# Altium integrated library Xilinx PLD XC9500XL.IntLib: 169 symbols (part 8 of 11)
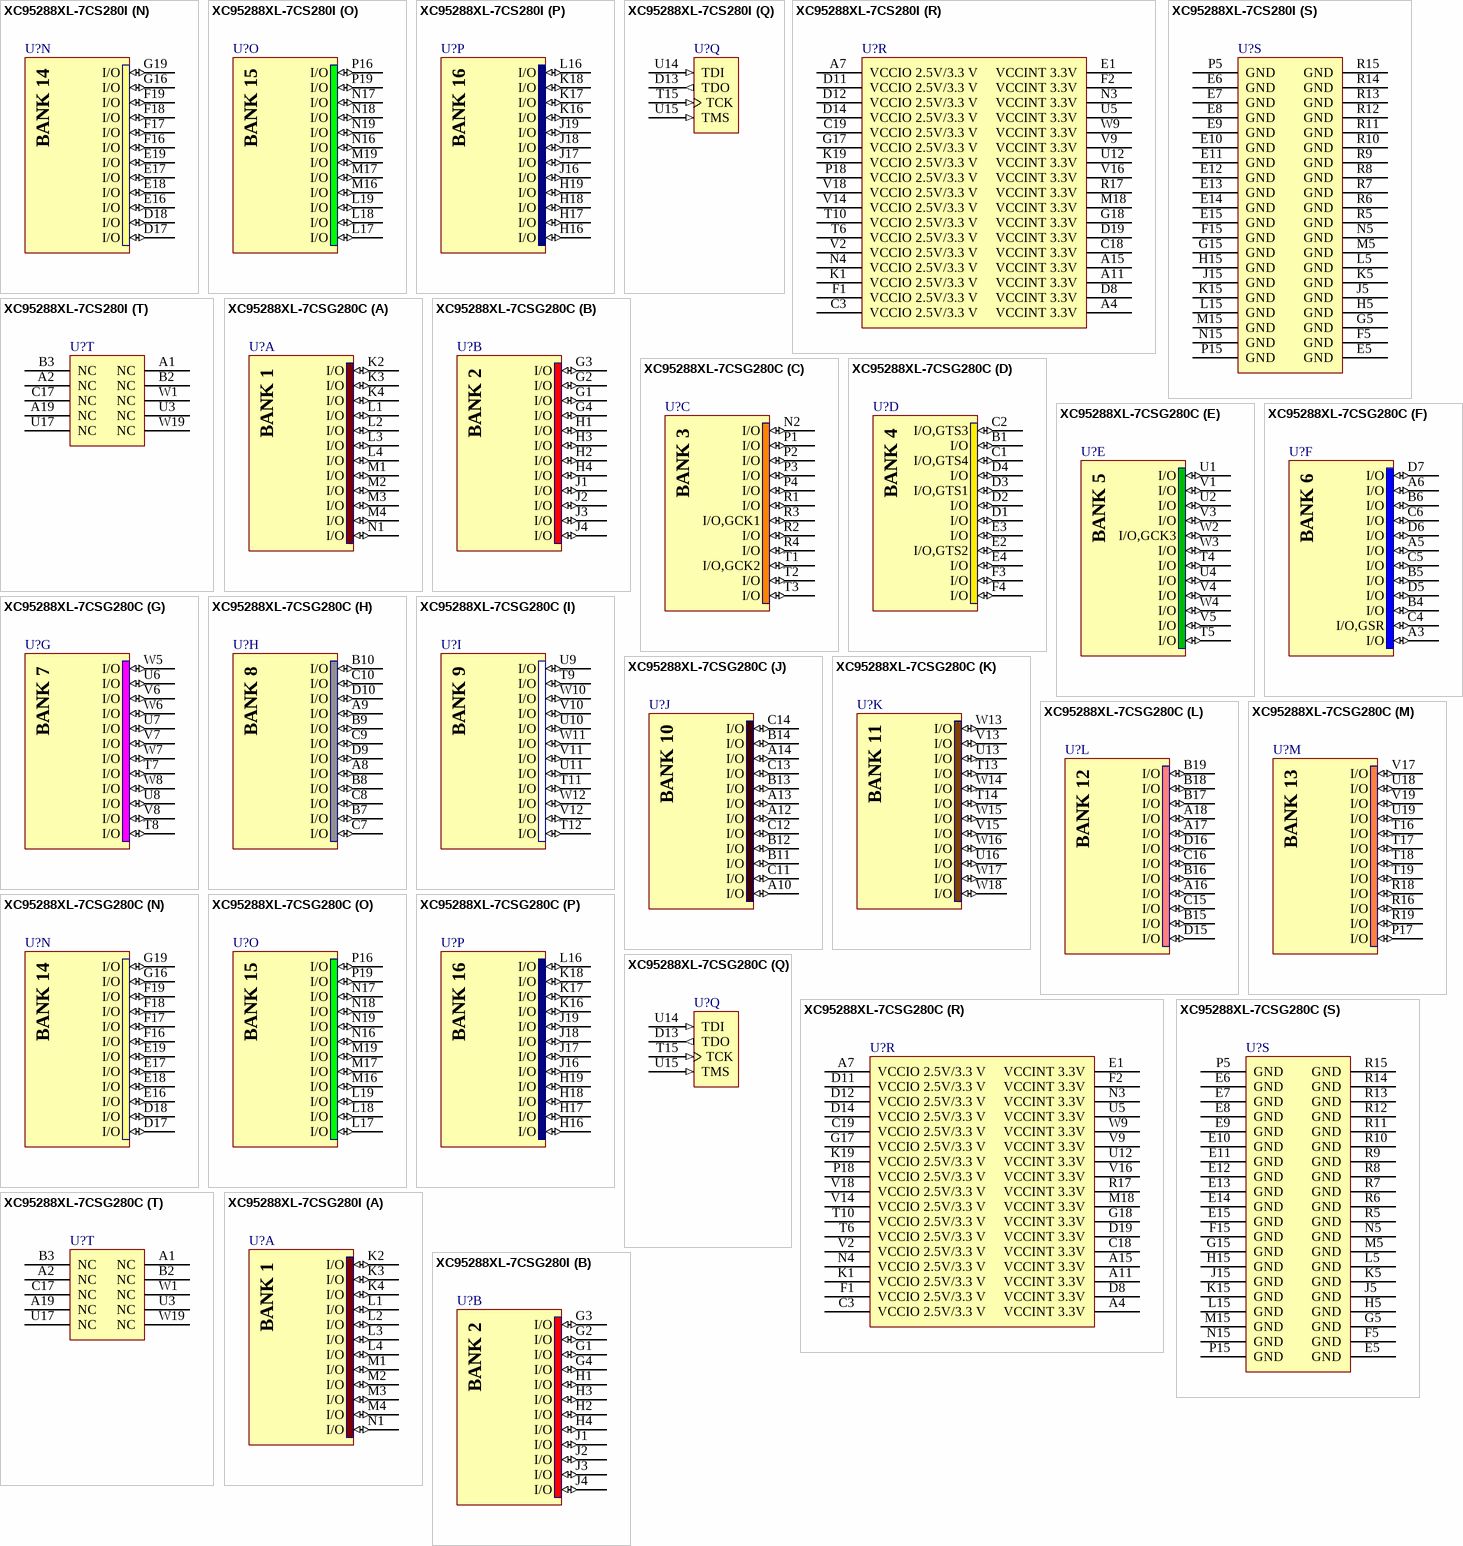
[diagram p65: symbols XC95288XL-7CS280I to XC95288XL-7CSG280I]

## XC95288XL-7CS280I
designator U?
FastFLASH XC900XL, 3.3V High-Performance 288 Macrocell CPLD, 192 User I/Os, 280-Ball CSBGA, Speed Grade 7, Industrial Grade; DatasheetVersion: ver2.1, Apr-2007; PackageVersion: ver1.0, Dec-2005; PackageReference: CS280LAM; PackageDescription: 280-Ball Laminate Chip Scale Ball Grid Array (CS280LAM); Code_JEDEC: MO-216-BAL-1 (Depopulated); ComponentLink1Description: Manufacturer URL; ComponentLink1URL: http://www.xilinx.com/; ComponentLink2Description: XC95288XL Datasheet; ComponentLink2URL: http://www.xilinx.com/support/documentation/data_sheets/ds055.pdf; ComponentLink3Description: CS280LAM Package Drawing; ComponentLink3URL: http://www.xilinx.com/support/documentation/package_specs/cs280_lam.pdf; ComponentLink4Description: XC9500XL Documents; ComponentLink4URL: http://www.xilinx.com/support/documentation/xc9500xl.htm
footprint CS280LAM (BGA, 280-Leads, Body 16x16mm, Pitch 0.8mm)
part A pins: K2 I/O (io), K3 I/O (io), K4 I/O (io), L1 I/O (io), L2 I/O (io), L3 I/O (io), L4 I/O (io), M1 I/O (io), M2 I/O (io), M3 I/O (io), M4 I/O (io), N1 I/O (io)
part B pins: G1 I/O (io), G2 I/O (io), G3 I/O (io), G4 I/O (io), H1 I/O (io), H2 I/O (io), H3 I/O (io), H4 I/O (io), J1 I/O (io), J2 I/O (io), J3 I/O (io), J4 I/O (io)
part C pins: N2 I/O (io), P1 I/O (io), P2 I/O (io), P3 I/O (io), P4 I/O (io), R1 I/O (io), R2 I/O (io), R3 I/O,GCK1 (io), R4 I/O (io), T1 I/O,GCK2 (io), T2 I/O (io), T3 I/O (io)
part D pins: B1 I/O (io), C1 I/O,GTS4 (io), C2 I/O,GTS3 (io), D1 I/O (io), D2 I/O (io), D3 I/O,GTS1 (io), D4 I/O (io), E2 I/O,GTS2 (io), E3 I/O (io), E4 I/O (io), F3 I/O (io), F4 I/O (io)
part E pins: T4 I/O (io), T5 I/O (io), U1 I/O (io), U2 I/O (io), U4 I/O (io), V1 I/O (io), V3 I/O (io), V4 I/O (io), V5 I/O (io), W2 I/O,GCK3 (io), W3 I/O (io), W4 I/O (io)
part F pins: A3 I/O (io), A5 I/O (io), A6 I/O (io), B4 I/O (io), B5 I/O (io), B6 I/O (io), C4 I/O,GSR (io), C5 I/O (io), C6 I/O (io), D5 I/O (io), D6 I/O (io), D7 I/O (io)
part G pins: T7 I/O (io), T8 I/O (io), U6 I/O (io), U7 I/O (io), U8 I/O (io), V6 I/O (io), V7 I/O (io), V8 I/O (io), W5 I/O (io), W6 I/O (io), W7 I/O (io), W8 I/O (io)
part H pins: A8 I/O (io), A9 I/O (io), B7 I/O (io), B8 I/O (io), B9 I/O (io), B10 I/O (io), C7 I/O (io), C8 I/O (io), C9 I/O (io), C10 I/O (io), D9 I/O (io), D10 I/O (io)
part I pins: T9 I/O (io), T11 I/O (io), T12 I/O (io), U9 I/O (io), U10 I/O (io), U11 I/O (io), V10 I/O (io), V11 I/O (io), V12 I/O (io), W10 I/O (io), W11 I/O (io), W12 I/O (io)
part J pins: A10 I/O (io), A12 I/O (io), A13 I/O (io), A14 I/O (io), B11 I/O (io), B12 I/O (io), B13 I/O (io), B14 I/O (io), C11 I/O (io), C12 I/O (io), C13 I/O (io), C14 I/O (io)
part K pins: T13 I/O (io), T14 I/O (io), U13 I/O (io), U16 I/O (io), V13 I/O (io), V15 I/O (io), W13 I/O (io), W14 I/O (io), W15 I/O (io), W16 I/O (io), W17 I/O (io), W18 I/O (io)
part L pins: A16 I/O (io), A17 I/O (io), A18 I/O (io), B15 I/O (io), B16 I/O (io), B17 I/O (io), B18 I/O (io), B19 I/O (io), C15 I/O (io), C16 I/O (io), D15 I/O (io), D16 I/O (io)
part M pins: P17 I/O (io), R16 I/O (io), R18 I/O (io), R19 I/O (io), T16 I/O (io), T17 I/O (io), T18 I/O (io), T19 I/O (io), U18 I/O (io), U19 I/O (io), V17 I/O (io), V19 I/O (io)
part N pins: D17 I/O (io), D18 I/O (io), E16 I/O (io), E17 I/O (io), E18 I/O (io), E19 I/O (io), F16 I/O (io), F17 I/O (io), F18 I/O (io), F19 I/O (io), G16 I/O (io), G19 I/O (io)
part O pins: L17 I/O (io), L18 I/O (io), L19 I/O (io), M16 I/O (io), M17 I/O (io), M19 I/O (io), N16 I/O (io), N17 I/O (io), N18 I/O (io), N19 I/O (io), P16 I/O (io), P19 I/O (io)
part P pins: H16 I/O (io), H17 I/O (io), H18 I/O (io), H19 I/O (io), J16 I/O (io), J17 I/O (io), J18 I/O (io), J19 I/O (io), K16 I/O (io), K17 I/O (io), K18 I/O (io), L16 I/O (io)
part Q pins: D13 TDO (out), T15 TCK (in), U14 TDI (in), U15 TMS (in)
part R pins: A4 VCCINT 3.3V (power), A7 VCCIO 2.5V/3.3 V (power), A11 VCCINT 3.3V (power), A15 VCCINT 3.3V (power), C3 VCCIO 2.5V/3.3 V (power), C18 VCCINT 3.3V (power), C19 VCCIO 2.5V/3.3 V (power), D8 VCCINT 3.3V (power), D11 VCCIO 2.5V/3.3 V (power), D12 VCCIO 2.5V/3.3 V (power), D14 VCCIO 2.5V/3.3 V (power), D19 VCCINT 3.3V (power), E1 VCCINT 3.3V (power), F1 VCCIO 2.5V/3.3 V (power), F2 VCCINT 3.3V (power), G17 VCCIO 2.5V/3.3 V (power), G18 VCCINT 3.3V (power), K1 VCCIO 2.5V/3.3 V (power), K19 VCCIO 2.5V/3.3 V (power), M18 VCCINT 3.3V (power), N3 VCCINT 3.3V (power), N4 VCCIO 2.5V/3.3 V (power), P18 VCCIO 2.5V/3.3 V (power), R17 VCCINT 3.3V (power), T6 VCCIO 2.5V/3.3 V (power), T10 VCCIO 2.5V/3.3 V (power), U5 VCCINT 3.3V (power), U12 VCCINT 3.3V (power), V2 VCCIO 2.5V/3.3 V (power), V9 VCCINT 3.3V (power), V14 VCCIO 2.5V/3.3 V (power), V16 VCCINT 3.3V (power), V18 VCCIO 2.5V/3.3 V (power), W9 VCCINT 3.3V (power)
part S pins: E5 GND (power), E6 GND (power), E7 GND (power), E8 GND (power), E9 GND (power), E10 GND (power), E11 GND (power), E12 GND (power), E13 GND (power), E14 GND (power), E15 GND (power), F5 GND (power), F15 GND (power), G5 GND (power), G15 GND (power), H5 GND (power), H15 GND (power), J5 GND (power), J15 GND (power), K5 GND (power), K15 GND (power), L5 GND (power), L15 GND (power), M5 GND (power), M15 GND (power), N5 GND (power), N15 GND (power), P5 GND (power), P15 GND (power), R5 GND (power), R6 GND (power), R7 GND (power), R8 GND (power), R9 GND (power), R10 GND (power), R11 GND (power), R12 GND (power), R13 GND (power), R14 GND (power), R15 GND (power)
part T pins: A1 NC, A2 NC, A19 NC, B2 NC, B3 NC, C17 NC, U3 NC, U17 NC, W1 NC, W19 NC
part A text: BANK 1
part B text: BANK 2
part C text: BANK 3
part D text: BANK 4
part E text: BANK 5
part F text: BANK 6
part G text: BANK 7
part H text: BANK 8
part I text: BANK 9
part J text: BANK 10
part K text: BANK 11
part L text: BANK 12
part M text: BANK 13
part N text: BANK 14
part O text: BANK 15
part P text: BANK 16

## XC95288XL-7CSG280C
designator U?
FastFLASH XC900XL, 3.3V High-Performance 288 Macrocell CPLD, 192 User I/Os, 280-Ball CSBGA, Speed Grade 7, Commercial Grade, Pb-Free; DatasheetVersion: ver2.1, Apr-2007; PackageVersion: ver1.0, Dec-2005; PackageReference: CSG280LAM; PackageDescription: 280-Ball Laminate Chip Scale Ball Grid Array (CSG280LAM) - Pb-Free; Code_JEDEC: MO-216-BAL-1 (Depopulated); ComponentLink1Description: Manufacturer URL; ComponentLink1URL: http://www.xilinx.com/; ComponentLink2Description: XC95288XL Datasheet; ComponentLink2URL: http://www.xilinx.com/support/documentation/data_sheets/ds055.pdf; ComponentLink3Description: CSG280LAM Package Drawing; ComponentLink3URL: http://www.xilinx.com/support/documentation/package_specs/cs280_lam.pdf; ComponentLink4Description: XC9500XL Documents; ComponentLink4URL: http://www.xilinx.com/support/documentation/xc9500xl.htm
footprint CSG280LAM (BGA, 280-Leads, Body 16x16mm, Pitch 0.8mm)
part A pins: K2 I/O (io), K3 I/O (io), K4 I/O (io), L1 I/O (io), L2 I/O (io), L3 I/O (io), L4 I/O (io), M1 I/O (io), M2 I/O (io), M3 I/O (io), M4 I/O (io), N1 I/O (io)
part B pins: G1 I/O (io), G2 I/O (io), G3 I/O (io), G4 I/O (io), H1 I/O (io), H2 I/O (io), H3 I/O (io), H4 I/O (io), J1 I/O (io), J2 I/O (io), J3 I/O (io), J4 I/O (io)
part C pins: N2 I/O (io), P1 I/O (io), P2 I/O (io), P3 I/O (io), P4 I/O (io), R1 I/O (io), R2 I/O (io), R3 I/O,GCK1 (io), R4 I/O (io), T1 I/O,GCK2 (io), T2 I/O (io), T3 I/O (io)
part D pins: B1 I/O (io), C1 I/O,GTS4 (io), C2 I/O,GTS3 (io), D1 I/O (io), D2 I/O (io), D3 I/O,GTS1 (io), D4 I/O (io), E2 I/O,GTS2 (io), E3 I/O (io), E4 I/O (io), F3 I/O (io), F4 I/O (io)
part E pins: T4 I/O (io), T5 I/O (io), U1 I/O (io), U2 I/O (io), U4 I/O (io), V1 I/O (io), V3 I/O (io), V4 I/O (io), V5 I/O (io), W2 I/O,GCK3 (io), W3 I/O (io), W4 I/O (io)
part F pins: A3 I/O (io), A5 I/O (io), A6 I/O (io), B4 I/O (io), B5 I/O (io), B6 I/O (io), C4 I/O,GSR (io), C5 I/O (io), C6 I/O (io), D5 I/O (io), D6 I/O (io), D7 I/O (io)
part G pins: T7 I/O (io), T8 I/O (io), U6 I/O (io), U7 I/O (io), U8 I/O (io), V6 I/O (io), V7 I/O (io), V8 I/O (io), W5 I/O (io), W6 I/O (io), W7 I/O (io), W8 I/O (io)
part H pins: A8 I/O (io), A9 I/O (io), B7 I/O (io), B8 I/O (io), B9 I/O (io), B10 I/O (io), C7 I/O (io), C8 I/O (io), C9 I/O (io), C10 I/O (io), D9 I/O (io), D10 I/O (io)
part I pins: T9 I/O (io), T11 I/O (io), T12 I/O (io), U9 I/O (io), U10 I/O (io), U11 I/O (io), V10 I/O (io), V11 I/O (io), V12 I/O (io), W10 I/O (io), W11 I/O (io), W12 I/O (io)
part J pins: A10 I/O (io), A12 I/O (io), A13 I/O (io), A14 I/O (io), B11 I/O (io), B12 I/O (io), B13 I/O (io), B14 I/O (io), C11 I/O (io), C12 I/O (io), C13 I/O (io), C14 I/O (io)
part K pins: T13 I/O (io), T14 I/O (io), U13 I/O (io), U16 I/O (io), V13 I/O (io), V15 I/O (io), W13 I/O (io), W14 I/O (io), W15 I/O (io), W16 I/O (io), W17 I/O (io), W18 I/O (io)
part L pins: A16 I/O (io), A17 I/O (io), A18 I/O (io), B15 I/O (io), B16 I/O (io), B17 I/O (io), B18 I/O (io), B19 I/O (io), C15 I/O (io), C16 I/O (io), D15 I/O (io), D16 I/O (io)
part M pins: P17 I/O (io), R16 I/O (io), R18 I/O (io), R19 I/O (io), T16 I/O (io), T17 I/O (io), T18 I/O (io), T19 I/O (io), U18 I/O (io), U19 I/O (io), V17 I/O (io), V19 I/O (io)
part N pins: D17 I/O (io), D18 I/O (io), E16 I/O (io), E17 I/O (io), E18 I/O (io), E19 I/O (io), F16 I/O (io), F17 I/O (io), F18 I/O (io), F19 I/O (io), G16 I/O (io), G19 I/O (io)
part O pins: L17 I/O (io), L18 I/O (io), L19 I/O (io), M16 I/O (io), M17 I/O (io), M19 I/O (io), N16 I/O (io), N17 I/O (io), N18 I/O (io), N19 I/O (io), P16 I/O (io), P19 I/O (io)
part P pins: H16 I/O (io), H17 I/O (io), H18 I/O (io), H19 I/O (io), J16 I/O (io), J17 I/O (io), J18 I/O (io), J19 I/O (io), K16 I/O (io), K17 I/O (io), K18 I/O (io), L16 I/O (io)
part Q pins: D13 TDO (out), T15 TCK (in), U14 TDI (in), U15 TMS (in)
part R pins: A4 VCCINT 3.3V (power), A7 VCCIO 2.5V/3.3 V (power), A11 VCCINT 3.3V (power), A15 VCCINT 3.3V (power), C3 VCCIO 2.5V/3.3 V (power), C18 VCCINT 3.3V (power), C19 VCCIO 2.5V/3.3 V (power), D8 VCCINT 3.3V (power), D11 VCCIO 2.5V/3.3 V (power), D12 VCCIO 2.5V/3.3 V (power), D14 VCCIO 2.5V/3.3 V (power), D19 VCCINT 3.3V (power), E1 VCCINT 3.3V (power), F1 VCCIO 2.5V/3.3 V (power), F2 VCCINT 3.3V (power), G17 VCCIO 2.5V/3.3 V (power), G18 VCCINT 3.3V (power), K1 VCCIO 2.5V/3.3 V (power), K19 VCCIO 2.5V/3.3 V (power), M18 VCCINT 3.3V (power), N3 VCCINT 3.3V (power), N4 VCCIO 2.5V/3.3 V (power), P18 VCCIO 2.5V/3.3 V (power), R17 VCCINT 3.3V (power), T6 VCCIO 2.5V/3.3 V (power), T10 VCCIO 2.5V/3.3 V (power), U5 VCCINT 3.3V (power), U12 VCCINT 3.3V (power), V2 VCCIO 2.5V/3.3 V (power), V9 VCCINT 3.3V (power), V14 VCCIO 2.5V/3.3 V (power), V16 VCCINT 3.3V (power), V18 VCCIO 2.5V/3.3 V (power), W9 VCCINT 3.3V (power)
part S pins: E5 GND (power), E6 GND (power), E7 GND (power), E8 GND (power), E9 GND (power), E10 GND (power), E11 GND (power), E12 GND (power), E13 GND (power), E14 GND (power), E15 GND (power), F5 GND (power), F15 GND (power), G5 GND (power), G15 GND (power), H5 GND (power), H15 GND (power), J5 GND (power), J15 GND (power), K5 GND (power), K15 GND (power), L5 GND (power), L15 GND (power), M5 GND (power), M15 GND (power), N5 GND (power), N15 GND (power), P5 GND (power), P15 GND (power), R5 GND (power), R6 GND (power), R7 GND (power), R8 GND (power), R9 GND (power), R10 GND (power), R11 GND (power), R12 GND (power), R13 GND (power), R14 GND (power), R15 GND (power)
part T pins: A1 NC, A2 NC, A19 NC, B2 NC, B3 NC, C17 NC, U3 NC, U17 NC, W1 NC, W19 NC
part A text: BANK 1
part B text: BANK 2
part C text: BANK 3
part D text: BANK 4
part E text: BANK 5
part F text: BANK 6
part G text: BANK 7
part H text: BANK 8
part I text: BANK 9
part J text: BANK 10
part K text: BANK 11
part L text: BANK 12
part M text: BANK 13
part N text: BANK 14
part O text: BANK 15
part P text: BANK 16

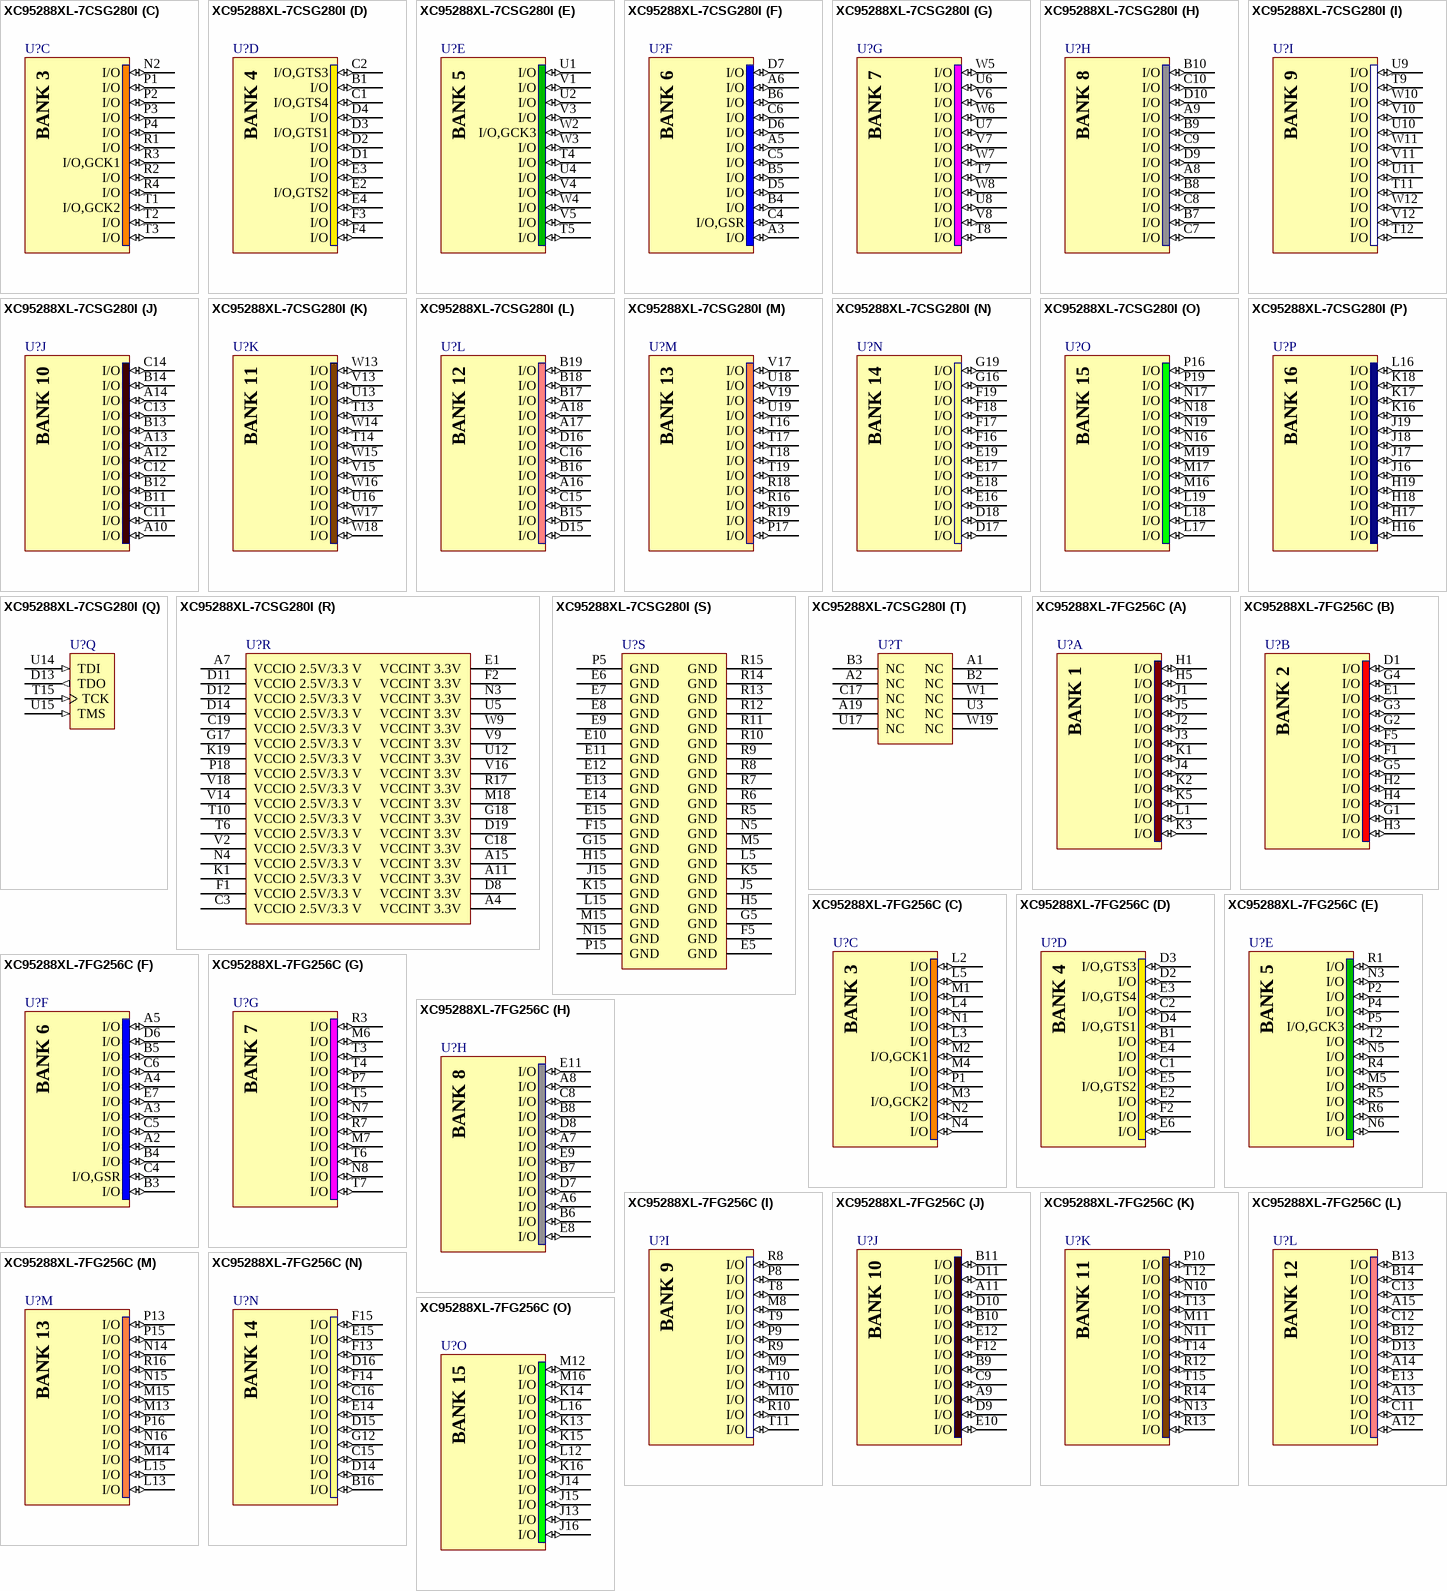
[diagram p40: symbols XC95288XL-7CSG280I to XC95288XL-7FG256C]

## XC95288XL-7CSG280I
designator U?
FastFLASH XC900XL, 3.3V High-Performance 288 Macrocell CPLD, 192 User I/Os, 280-Ball CSBGA, Speed Grade 7, Industrial Grade, Pb-Free; DatasheetVersion: ver2.1, Apr-2007; PackageVersion: ver1.0, Dec-2005; PackageReference: CSG280LAM; PackageDescription: 280-Ball Laminate Chip Scale Ball Grid Array (CSG280LAM) - Pb-Free; Code_JEDEC: MO-216-BAL-1 (Depopulated); ComponentLink1Description: Manufacturer URL; ComponentLink1URL: http://www.xilinx.com/; ComponentLink2Description: XC95288XL Datasheet; ComponentLink2URL: http://www.xilinx.com/support/documentation/data_sheets/ds055.pdf; ComponentLink3Description: CSG280LAM Package Drawing; ComponentLink3URL: http://www.xilinx.com/support/documentation/package_specs/cs280_lam.pdf; ComponentLink4Description: XC9500XL Documents; ComponentLink4URL: http://www.xilinx.com/support/documentation/xc9500xl.htm
footprint CSG280LAM (BGA, 280-Leads, Body 16x16mm, Pitch 0.8mm)
part A pins: K2 I/O (io), K3 I/O (io), K4 I/O (io), L1 I/O (io), L2 I/O (io), L3 I/O (io), L4 I/O (io), M1 I/O (io), M2 I/O (io), M3 I/O (io), M4 I/O (io), N1 I/O (io)
part B pins: G1 I/O (io), G2 I/O (io), G3 I/O (io), G4 I/O (io), H1 I/O (io), H2 I/O (io), H3 I/O (io), H4 I/O (io), J1 I/O (io), J2 I/O (io), J3 I/O (io), J4 I/O (io)
part C pins: N2 I/O (io), P1 I/O (io), P2 I/O (io), P3 I/O (io), P4 I/O (io), R1 I/O (io), R2 I/O (io), R3 I/O,GCK1 (io), R4 I/O (io), T1 I/O,GCK2 (io), T2 I/O (io), T3 I/O (io)
part D pins: B1 I/O (io), C1 I/O,GTS4 (io), C2 I/O,GTS3 (io), D1 I/O (io), D2 I/O (io), D3 I/O,GTS1 (io), D4 I/O (io), E2 I/O,GTS2 (io), E3 I/O (io), E4 I/O (io), F3 I/O (io), F4 I/O (io)
part E pins: T4 I/O (io), T5 I/O (io), U1 I/O (io), U2 I/O (io), U4 I/O (io), V1 I/O (io), V3 I/O (io), V4 I/O (io), V5 I/O (io), W2 I/O,GCK3 (io), W3 I/O (io), W4 I/O (io)
part F pins: A3 I/O (io), A5 I/O (io), A6 I/O (io), B4 I/O (io), B5 I/O (io), B6 I/O (io), C4 I/O,GSR (io), C5 I/O (io), C6 I/O (io), D5 I/O (io), D6 I/O (io), D7 I/O (io)
part G pins: T7 I/O (io), T8 I/O (io), U6 I/O (io), U7 I/O (io), U8 I/O (io), V6 I/O (io), V7 I/O (io), V8 I/O (io), W5 I/O (io), W6 I/O (io), W7 I/O (io), W8 I/O (io)
part H pins: A8 I/O (io), A9 I/O (io), B7 I/O (io), B8 I/O (io), B9 I/O (io), B10 I/O (io), C7 I/O (io), C8 I/O (io), C9 I/O (io), C10 I/O (io), D9 I/O (io), D10 I/O (io)
part I pins: T9 I/O (io), T11 I/O (io), T12 I/O (io), U9 I/O (io), U10 I/O (io), U11 I/O (io), V10 I/O (io), V11 I/O (io), V12 I/O (io), W10 I/O (io), W11 I/O (io), W12 I/O (io)
part J pins: A10 I/O (io), A12 I/O (io), A13 I/O (io), A14 I/O (io), B11 I/O (io), B12 I/O (io), B13 I/O (io), B14 I/O (io), C11 I/O (io), C12 I/O (io), C13 I/O (io), C14 I/O (io)
part K pins: T13 I/O (io), T14 I/O (io), U13 I/O (io), U16 I/O (io), V13 I/O (io), V15 I/O (io), W13 I/O (io), W14 I/O (io), W15 I/O (io), W16 I/O (io), W17 I/O (io), W18 I/O (io)
part L pins: A16 I/O (io), A17 I/O (io), A18 I/O (io), B15 I/O (io), B16 I/O (io), B17 I/O (io), B18 I/O (io), B19 I/O (io), C15 I/O (io), C16 I/O (io), D15 I/O (io), D16 I/O (io)
part M pins: P17 I/O (io), R16 I/O (io), R18 I/O (io), R19 I/O (io), T16 I/O (io), T17 I/O (io), T18 I/O (io), T19 I/O (io), U18 I/O (io), U19 I/O (io), V17 I/O (io), V19 I/O (io)
part N pins: D17 I/O (io), D18 I/O (io), E16 I/O (io), E17 I/O (io), E18 I/O (io), E19 I/O (io), F16 I/O (io), F17 I/O (io), F18 I/O (io), F19 I/O (io), G16 I/O (io), G19 I/O (io)
part O pins: L17 I/O (io), L18 I/O (io), L19 I/O (io), M16 I/O (io), M17 I/O (io), M19 I/O (io), N16 I/O (io), N17 I/O (io), N18 I/O (io), N19 I/O (io), P16 I/O (io), P19 I/O (io)
part P pins: H16 I/O (io), H17 I/O (io), H18 I/O (io), H19 I/O (io), J16 I/O (io), J17 I/O (io), J18 I/O (io), J19 I/O (io), K16 I/O (io), K17 I/O (io), K18 I/O (io), L16 I/O (io)
part Q pins: D13 TDO (out), T15 TCK (in), U14 TDI (in), U15 TMS (in)
part R pins: A4 VCCINT 3.3V (power), A7 VCCIO 2.5V/3.3 V (power), A11 VCCINT 3.3V (power), A15 VCCINT 3.3V (power), C3 VCCIO 2.5V/3.3 V (power), C18 VCCINT 3.3V (power), C19 VCCIO 2.5V/3.3 V (power), D8 VCCINT 3.3V (power), D11 VCCIO 2.5V/3.3 V (power), D12 VCCIO 2.5V/3.3 V (power), D14 VCCIO 2.5V/3.3 V (power), D19 VCCINT 3.3V (power), E1 VCCINT 3.3V (power), F1 VCCIO 2.5V/3.3 V (power), F2 VCCINT 3.3V (power), G17 VCCIO 2.5V/3.3 V (power), G18 VCCINT 3.3V (power), K1 VCCIO 2.5V/3.3 V (power), K19 VCCIO 2.5V/3.3 V (power), M18 VCCINT 3.3V (power), N3 VCCINT 3.3V (power), N4 VCCIO 2.5V/3.3 V (power), P18 VCCIO 2.5V/3.3 V (power), R17 VCCINT 3.3V (power), T6 VCCIO 2.5V/3.3 V (power), T10 VCCIO 2.5V/3.3 V (power), U5 VCCINT 3.3V (power), U12 VCCINT 3.3V (power), V2 VCCIO 2.5V/3.3 V (power), V9 VCCINT 3.3V (power), V14 VCCIO 2.5V/3.3 V (power), V16 VCCINT 3.3V (power), V18 VCCIO 2.5V/3.3 V (power), W9 VCCINT 3.3V (power)
part S pins: E5 GND (power), E6 GND (power), E7 GND (power), E8 GND (power), E9 GND (power), E10 GND (power), E11 GND (power), E12 GND (power), E13 GND (power), E14 GND (power), E15 GND (power), F5 GND (power), F15 GND (power), G5 GND (power), G15 GND (power), H5 GND (power), H15 GND (power), J5 GND (power), J15 GND (power), K5 GND (power), K15 GND (power), L5 GND (power), L15 GND (power), M5 GND (power), M15 GND (power), N5 GND (power), N15 GND (power), P5 GND (power), P15 GND (power), R5 GND (power), R6 GND (power), R7 GND (power), R8 GND (power), R9 GND (power), R10 GND (power), R11 GND (power), R12 GND (power), R13 GND (power), R14 GND (power), R15 GND (power)
part T pins: A1 NC, A2 NC, A19 NC, B2 NC, B3 NC, C17 NC, U3 NC, U17 NC, W1 NC, W19 NC
part A text: BANK 1
part B text: BANK 2
part C text: BANK 3
part D text: BANK 4
part E text: BANK 5
part F text: BANK 6
part G text: BANK 7
part H text: BANK 8
part I text: BANK 9
part J text: BANK 10
part K text: BANK 11
part L text: BANK 12
part M text: BANK 13
part N text: BANK 14
part O text: BANK 15
part P text: BANK 16

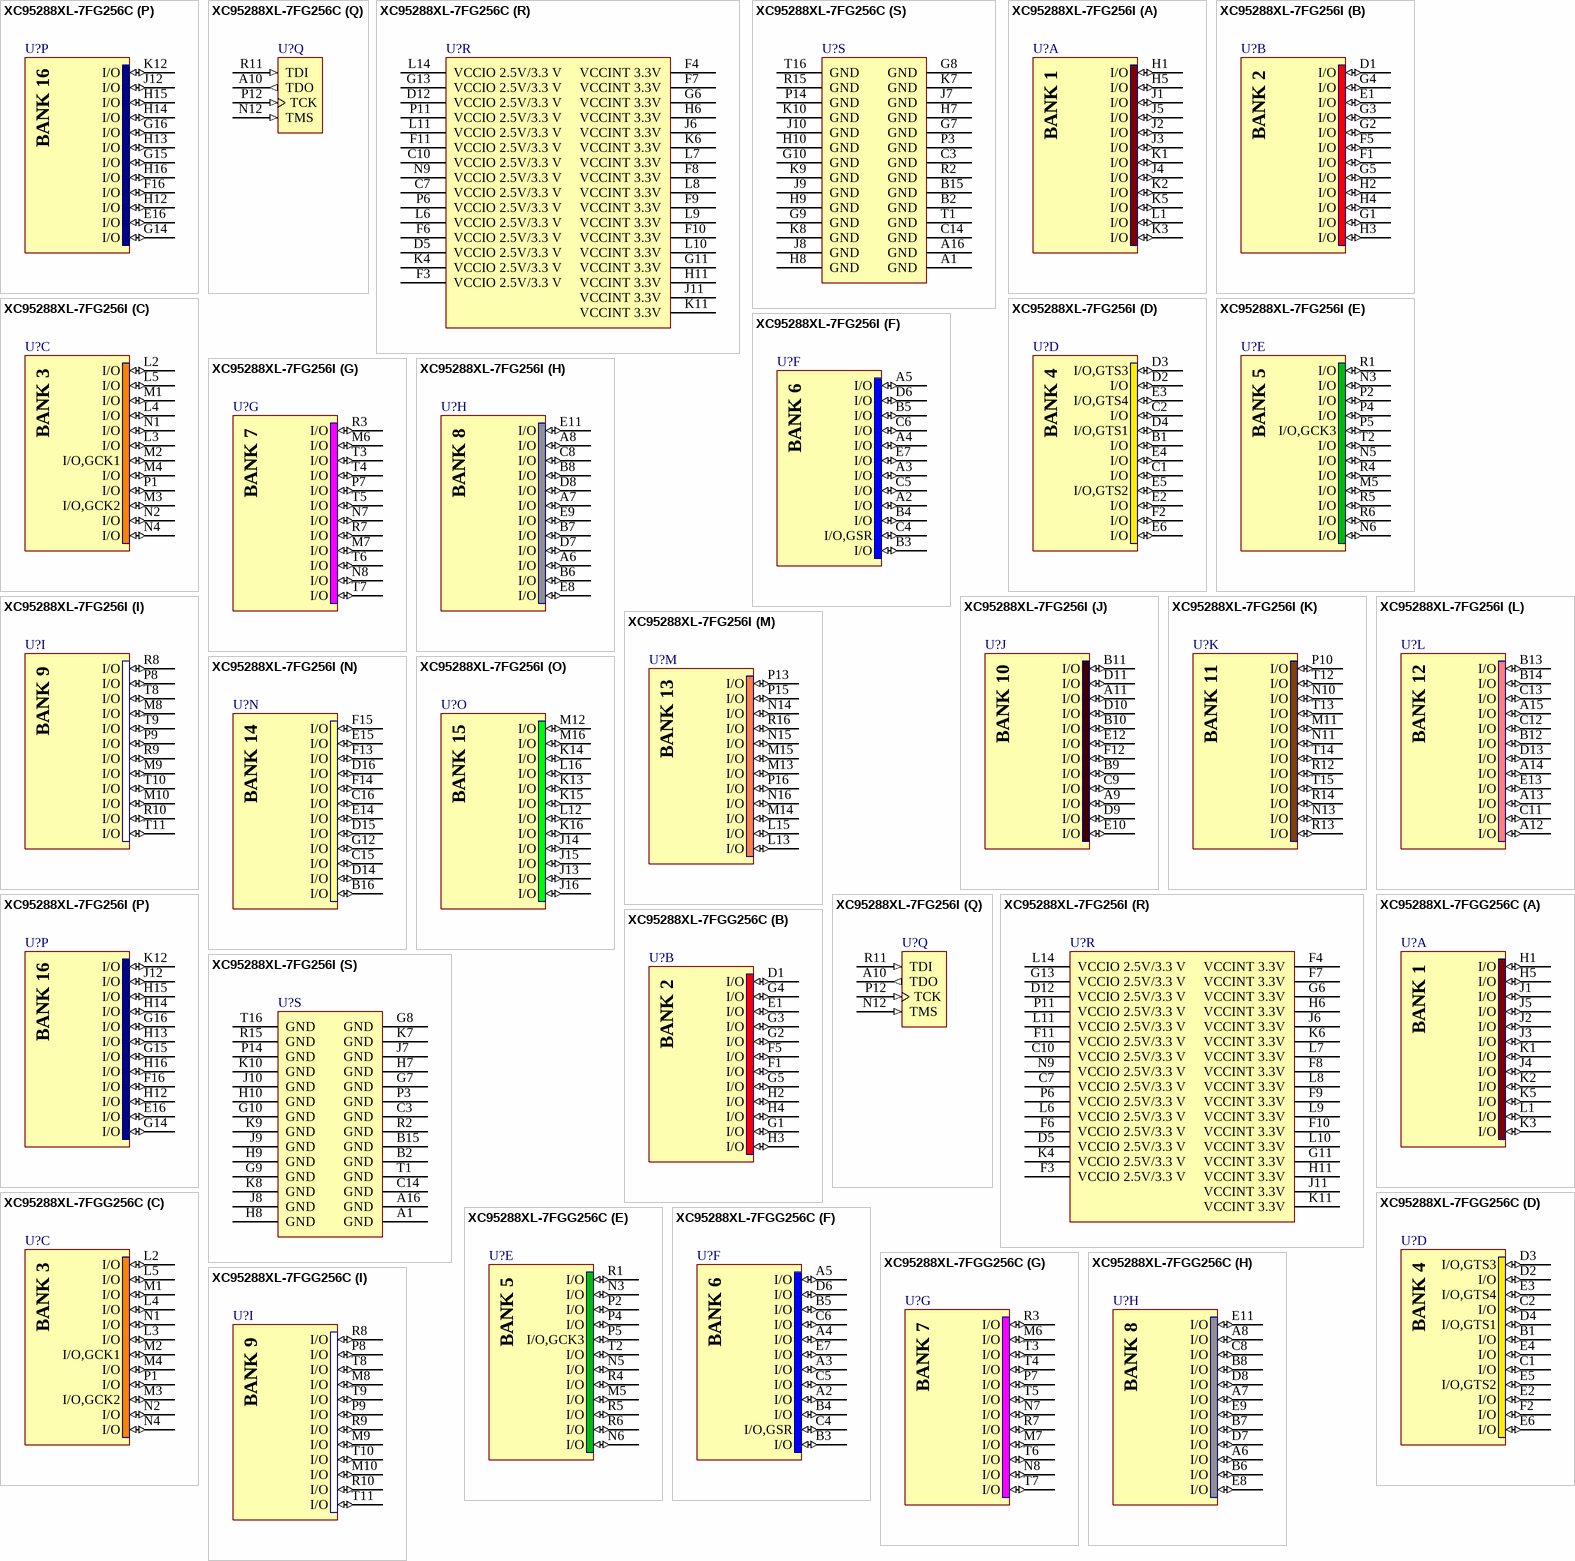
[diagram p41: symbols XC95288XL-7FG256C to XC95288XL-7FGG256C]

## XC95288XL-7FG256C
designator U?
FastFLASH XC900XL, 3.3V High-Performance 288 Macrocell CPLD, 192 User I/Os, 256-Ball FBGA, Speed Grade 7, Commercial Grade; DatasheetVersion: ver2.1, Apr-2007; PackageVersion: ver1.2.1, Apr-2005; PackageReference: FG256; PackageDescription: 256-Ball Fine Pitch Ball Grid Array (FG256); Code_JEDEC: MO-151-AAF-1; Code_IPC: BGA100P16X16-256; ComponentLink1Description: Manufacturer URL; ComponentLink1URL: http://www.xilinx.com/; ComponentLink2Description: XC95288XL Datasheet; ComponentLink2URL: http://www.xilinx.com/support/documentation/data_sheets/ds055.pdf; ComponentLink3Description: FG256 Package Drawing; ComponentLink3URL: http://www.xilinx.com/support/documentation/package_specs/fg256.pdf; ComponentLink4Description: XC9500XL Documents; ComponentLink4URL: http://www.xilinx.com/support/documentation/xc9500xl.htm
footprint FG256 (BGA, 256-Leads, Body 17x17mm, Pitch 1mm)
part A pins: H1 I/O (io), H5 I/O (io), J1 I/O (io), J2 I/O (io), J3 I/O (io), J4 I/O (io), J5 I/O (io), K1 I/O (io), K2 I/O (io), K3 I/O (io), K5 I/O (io), L1 I/O (io)
part B pins: D1 I/O (io), E1 I/O (io), F1 I/O (io), F5 I/O (io), G1 I/O (io), G2 I/O (io), G3 I/O (io), G4 I/O (io), G5 I/O (io), H2 I/O (io), H3 I/O (io), H4 I/O (io)
part C pins: L2 I/O (io), L3 I/O (io), L4 I/O (io), L5 I/O (io), M1 I/O (io), M2 I/O,GCK1 (io), M3 I/O,GCK2 (io), M4 I/O (io), N1 I/O (io), N2 I/O (io), N4 I/O (io), P1 I/O (io)
part D pins: B1 I/O (io), C1 I/O (io), C2 I/O (io), D2 I/O (io), D3 I/O,GTS3 (io), D4 I/O,GTS1 (io), E2 I/O (io), E3 I/O,GTS4 (io), E4 I/O (io), E5 I/O,GTS2 (io), E6 I/O (io), F2 I/O (io)
part E pins: M5 I/O (io), N3 I/O (io), N5 I/O (io), N6 I/O (io), P2 I/O (io), P4 I/O (io), P5 I/O,GCK3 (io), R1 I/O (io), R4 I/O (io), R5 I/O (io), R6 I/O (io), T2 I/O (io)
part F pins: A2 I/O (io), A3 I/O (io), A4 I/O (io), A5 I/O (io), B3 I/O (io), B4 I/O (io), B5 I/O (io), C4 I/O,GSR (io), C5 I/O (io), C6 I/O (io), D6 I/O (io), E7 I/O (io)
part G pins: M6 I/O (io), M7 I/O (io), N7 I/O (io), N8 I/O (io), P7 I/O (io), R3 I/O (io), R7 I/O (io), T3 I/O (io), T4 I/O (io), T5 I/O (io), T6 I/O (io), T7 I/O (io)
part H pins: A6 I/O (io), A7 I/O (io), A8 I/O (io), B6 I/O (io), B7 I/O (io), B8 I/O (io), C8 I/O (io), D7 I/O (io), D8 I/O (io), E8 I/O (io), E9 I/O (io), E11 I/O (io)
part I pins: M8 I/O (io), M9 I/O (io), M10 I/O (io), P8 I/O (io), P9 I/O (io), R8 I/O (io), R9 I/O (io), R10 I/O (io), T8 I/O (io), T9 I/O (io), T10 I/O (io), T11 I/O (io)
part J pins: A9 I/O (io), A11 I/O (io), B9 I/O (io), B10 I/O (io), B11 I/O (io), C9 I/O (io), D9 I/O (io), D10 I/O (io), D11 I/O (io), E10 I/O (io), E12 I/O (io), F12 I/O (io)
part K pins: M11 I/O (io), N10 I/O (io), N11 I/O (io), N13 I/O (io), P10 I/O (io), R12 I/O (io), R13 I/O (io), R14 I/O (io), T12 I/O (io), T13 I/O (io), T14 I/O (io), T15 I/O (io)
part L pins: A12 I/O (io), A13 I/O (io), A14 I/O (io), A15 I/O (io), B12 I/O (io), B13 I/O (io), B14 I/O (io), C11 I/O (io), C12 I/O (io), C13 I/O (io), D13 I/O (io), E13 I/O (io)
part M pins: L13 I/O (io), L15 I/O (io), M13 I/O (io), M14 I/O (io), M15 I/O (io), N14 I/O (io), N15 I/O (io), N16 I/O (io), P13 I/O (io), P15 I/O (io), P16 I/O (io), R16 I/O (io)
part N pins: B16 I/O (io), C15 I/O (io), C16 I/O (io), D14 I/O (io), D15 I/O (io), D16 I/O (io), E14 I/O (io), E15 I/O (io), F13 I/O (io), F14 I/O (io), F15 I/O (io), G12 I/O (io)
part O pins: J13 I/O (io), J14 I/O (io), J15 I/O (io), J16 I/O (io), K13 I/O (io), K14 I/O (io), K15 I/O (io), K16 I/O (io), L12 I/O (io), L16 I/O (io), M12 I/O (io), M16 I/O (io)
part P pins: E16 I/O (io), F16 I/O (io), G14 I/O (io), G15 I/O (io), G16 I/O (io), H12 I/O (io), H13 I/O (io), H14 I/O (io), H15 I/O (io), H16 I/O (io), J12 I/O (io), K12 I/O (io)
part Q pins: A10 TDO (out), N12 TMS (in), P12 TCK (in), R11 TDI (in)
part R pins: C7 VCCIO 2.5V/3.3 V (power), C10 VCCIO 2.5V/3.3 V (power), D5 VCCIO 2.5V/3.3 V (power), D12 VCCIO 2.5V/3.3 V (power), F3 VCCIO 2.5V/3.3 V (power), F4 VCCINT 3.3V (power), F6 VCCIO 2.5V/3.3 V (power), F7 VCCINT 3.3V (power), F8 VCCINT 3.3V (power), F9 VCCINT 3.3V (power), F10 VCCINT 3.3V (power), F11 VCCIO 2.5V/3.3 V (power), G6 VCCINT 3.3V (power), G11 VCCINT 3.3V (power), G13 VCCIO 2.5V/3.3 V (power), H6 VCCINT 3.3V (power), H11 VCCINT 3.3V (power), J6 VCCINT 3.3V (power), J11 VCCINT 3.3V (power), K4 VCCIO 2.5V/3.3 V (power), K6 VCCINT 3.3V (power), K11 VCCINT 3.3V (power), L6 VCCIO 2.5V/3.3 V (power), L7 VCCINT 3.3V (power), L8 VCCINT 3.3V (power), L9 VCCINT 3.3V (power), L10 VCCINT 3.3V (power), L11 VCCIO 2.5V/3.3 V (power), L14 VCCIO 2.5V/3.3 V (power), N9 VCCIO 2.5V/3.3 V (power), P6 VCCIO 2.5V/3.3 V (power), P11 VCCIO 2.5V/3.3 V (power)
part S pins: A1 GND (power), A16 GND (power), B2 GND (power), B15 GND (power), C3 GND (power), C14 GND (power), G7 GND (power), G8 GND (power), G9 GND (power), G10 GND (power), H7 GND (power), H8 GND (power), H9 GND (power), H10 GND (power), J7 GND (power), J8 GND (power), J9 GND (power), J10 GND (power), K7 GND (power), K8 GND (power), K9 GND (power), K10 GND (power), P3 GND (power), P14 GND (power), R2 GND (power), R15 GND (power), T1 GND (power), T16 GND (power)
part A text: BANK 1
part B text: BANK 2
part C text: BANK 3
part D text: BANK 4
part E text: BANK 5
part F text: BANK 6
part G text: BANK 7
part H text: BANK 8
part I text: BANK 9
part J text: BANK 10
part K text: BANK 11
part L text: BANK 12
part M text: BANK 13
part N text: BANK 14
part O text: BANK 15
part P text: BANK 16

## XC95288XL-7FG256I
designator U?
FastFLASH XC900XL, 3.3V High-Performance 288 Macrocell CPLD, 192 User I/Os, 256-Ball FBGA, Speed Grade 7, Industrial Grade; DatasheetVersion: ver2.1, Apr-2007; PackageVersion: ver1.2.1, Apr-2005; PackageReference: FG256; PackageDescription: 256-Ball Fine Pitch Ball Grid Array (FG256); Code_JEDEC: MO-151-AAF-1; Code_IPC: BGA100P16X16-256; ComponentLink1Description: Manufacturer URL; ComponentLink1URL: http://www.xilinx.com/; ComponentLink2Description: XC95288XL Datasheet; ComponentLink2URL: http://www.xilinx.com/support/documentation/data_sheets/ds055.pdf; ComponentLink3Description: FG256 Package Drawing; ComponentLink3URL: http://www.xilinx.com/support/documentation/package_specs/fg256.pdf; ComponentLink4Description: XC9500XL Documents; ComponentLink4URL: http://www.xilinx.com/support/documentation/xc9500xl.htm
footprint FG256 (BGA, 256-Leads, Body 17x17mm, Pitch 1mm)
part A pins: H1 I/O (io), H5 I/O (io), J1 I/O (io), J2 I/O (io), J3 I/O (io), J4 I/O (io), J5 I/O (io), K1 I/O (io), K2 I/O (io), K3 I/O (io), K5 I/O (io), L1 I/O (io)
part B pins: D1 I/O (io), E1 I/O (io), F1 I/O (io), F5 I/O (io), G1 I/O (io), G2 I/O (io), G3 I/O (io), G4 I/O (io), G5 I/O (io), H2 I/O (io), H3 I/O (io), H4 I/O (io)
part C pins: L2 I/O (io), L3 I/O (io), L4 I/O (io), L5 I/O (io), M1 I/O (io), M2 I/O,GCK1 (io), M3 I/O,GCK2 (io), M4 I/O (io), N1 I/O (io), N2 I/O (io), N4 I/O (io), P1 I/O (io)
part D pins: B1 I/O (io), C1 I/O (io), C2 I/O (io), D2 I/O (io), D3 I/O,GTS3 (io), D4 I/O,GTS1 (io), E2 I/O (io), E3 I/O,GTS4 (io), E4 I/O (io), E5 I/O,GTS2 (io), E6 I/O (io), F2 I/O (io)
part E pins: M5 I/O (io), N3 I/O (io), N5 I/O (io), N6 I/O (io), P2 I/O (io), P4 I/O (io), P5 I/O,GCK3 (io), R1 I/O (io), R4 I/O (io), R5 I/O (io), R6 I/O (io), T2 I/O (io)
part F pins: A2 I/O (io), A3 I/O (io), A4 I/O (io), A5 I/O (io), B3 I/O (io), B4 I/O (io), B5 I/O (io), C4 I/O,GSR (io), C5 I/O (io), C6 I/O (io), D6 I/O (io), E7 I/O (io)
part G pins: M6 I/O (io), M7 I/O (io), N7 I/O (io), N8 I/O (io), P7 I/O (io), R3 I/O (io), R7 I/O (io), T3 I/O (io), T4 I/O (io), T5 I/O (io), T6 I/O (io), T7 I/O (io)
part H pins: A6 I/O (io), A7 I/O (io), A8 I/O (io), B6 I/O (io), B7 I/O (io), B8 I/O (io), C8 I/O (io), D7 I/O (io), D8 I/O (io), E8 I/O (io), E9 I/O (io), E11 I/O (io)
part I pins: M8 I/O (io), M9 I/O (io), M10 I/O (io), P8 I/O (io), P9 I/O (io), R8 I/O (io), R9 I/O (io), R10 I/O (io), T8 I/O (io), T9 I/O (io), T10 I/O (io), T11 I/O (io)
part J pins: A9 I/O (io), A11 I/O (io), B9 I/O (io), B10 I/O (io), B11 I/O (io), C9 I/O (io), D9 I/O (io), D10 I/O (io), D11 I/O (io), E10 I/O (io), E12 I/O (io), F12 I/O (io)
part K pins: M11 I/O (io), N10 I/O (io), N11 I/O (io), N13 I/O (io), P10 I/O (io), R12 I/O (io), R13 I/O (io), R14 I/O (io), T12 I/O (io), T13 I/O (io), T14 I/O (io), T15 I/O (io)
part L pins: A12 I/O (io), A13 I/O (io), A14 I/O (io), A15 I/O (io), B12 I/O (io), B13 I/O (io), B14 I/O (io), C11 I/O (io), C12 I/O (io), C13 I/O (io), D13 I/O (io), E13 I/O (io)
part M pins: L13 I/O (io), L15 I/O (io), M13 I/O (io), M14 I/O (io), M15 I/O (io), N14 I/O (io), N15 I/O (io), N16 I/O (io), P13 I/O (io), P15 I/O (io), P16 I/O (io), R16 I/O (io)
part N pins: B16 I/O (io), C15 I/O (io), C16 I/O (io), D14 I/O (io), D15 I/O (io), D16 I/O (io), E14 I/O (io), E15 I/O (io), F13 I/O (io), F14 I/O (io), F15 I/O (io), G12 I/O (io)
part O pins: J13 I/O (io), J14 I/O (io), J15 I/O (io), J16 I/O (io), K13 I/O (io), K14 I/O (io), K15 I/O (io), K16 I/O (io), L12 I/O (io), L16 I/O (io), M12 I/O (io), M16 I/O (io)
part P pins: E16 I/O (io), F16 I/O (io), G14 I/O (io), G15 I/O (io), G16 I/O (io), H12 I/O (io), H13 I/O (io), H14 I/O (io), H15 I/O (io), H16 I/O (io), J12 I/O (io), K12 I/O (io)
part Q pins: A10 TDO (out), N12 TMS (in), P12 TCK (in), R11 TDI (in)
part R pins: C7 VCCIO 2.5V/3.3 V (power), C10 VCCIO 2.5V/3.3 V (power), D5 VCCIO 2.5V/3.3 V (power), D12 VCCIO 2.5V/3.3 V (power), F3 VCCIO 2.5V/3.3 V (power), F4 VCCINT 3.3V (power), F6 VCCIO 2.5V/3.3 V (power), F7 VCCINT 3.3V (power), F8 VCCINT 3.3V (power), F9 VCCINT 3.3V (power), F10 VCCINT 3.3V (power), F11 VCCIO 2.5V/3.3 V (power), G6 VCCINT 3.3V (power), G11 VCCINT 3.3V (power), G13 VCCIO 2.5V/3.3 V (power), H6 VCCINT 3.3V (power), H11 VCCINT 3.3V (power), J6 VCCINT 3.3V (power), J11 VCCINT 3.3V (power), K4 VCCIO 2.5V/3.3 V (power), K6 VCCINT 3.3V (power), K11 VCCINT 3.3V (power), L6 VCCIO 2.5V/3.3 V (power), L7 VCCINT 3.3V (power), L8 VCCINT 3.3V (power), L9 VCCINT 3.3V (power), L10 VCCINT 3.3V (power), L11 VCCIO 2.5V/3.3 V (power), L14 VCCIO 2.5V/3.3 V (power), N9 VCCIO 2.5V/3.3 V (power), P6 VCCIO 2.5V/3.3 V (power), P11 VCCIO 2.5V/3.3 V (power)
part S pins: A1 GND (power), A16 GND (power), B2 GND (power), B15 GND (power), C3 GND (power), C14 GND (power), G7 GND (power), G8 GND (power), G9 GND (power), G10 GND (power), H7 GND (power), H8 GND (power), H9 GND (power), H10 GND (power), J7 GND (power), J8 GND (power), J9 GND (power), J10 GND (power), K7 GND (power), K8 GND (power), K9 GND (power), K10 GND (power), P3 GND (power), P14 GND (power), R2 GND (power), R15 GND (power), T1 GND (power), T16 GND (power)
part A text: BANK 1
part B text: BANK 2
part C text: BANK 3
part D text: BANK 4
part E text: BANK 5
part F text: BANK 6
part G text: BANK 7
part H text: BANK 8
part I text: BANK 9
part J text: BANK 10
part K text: BANK 11
part L text: BANK 12
part M text: BANK 13
part N text: BANK 14
part O text: BANK 15
part P text: BANK 16

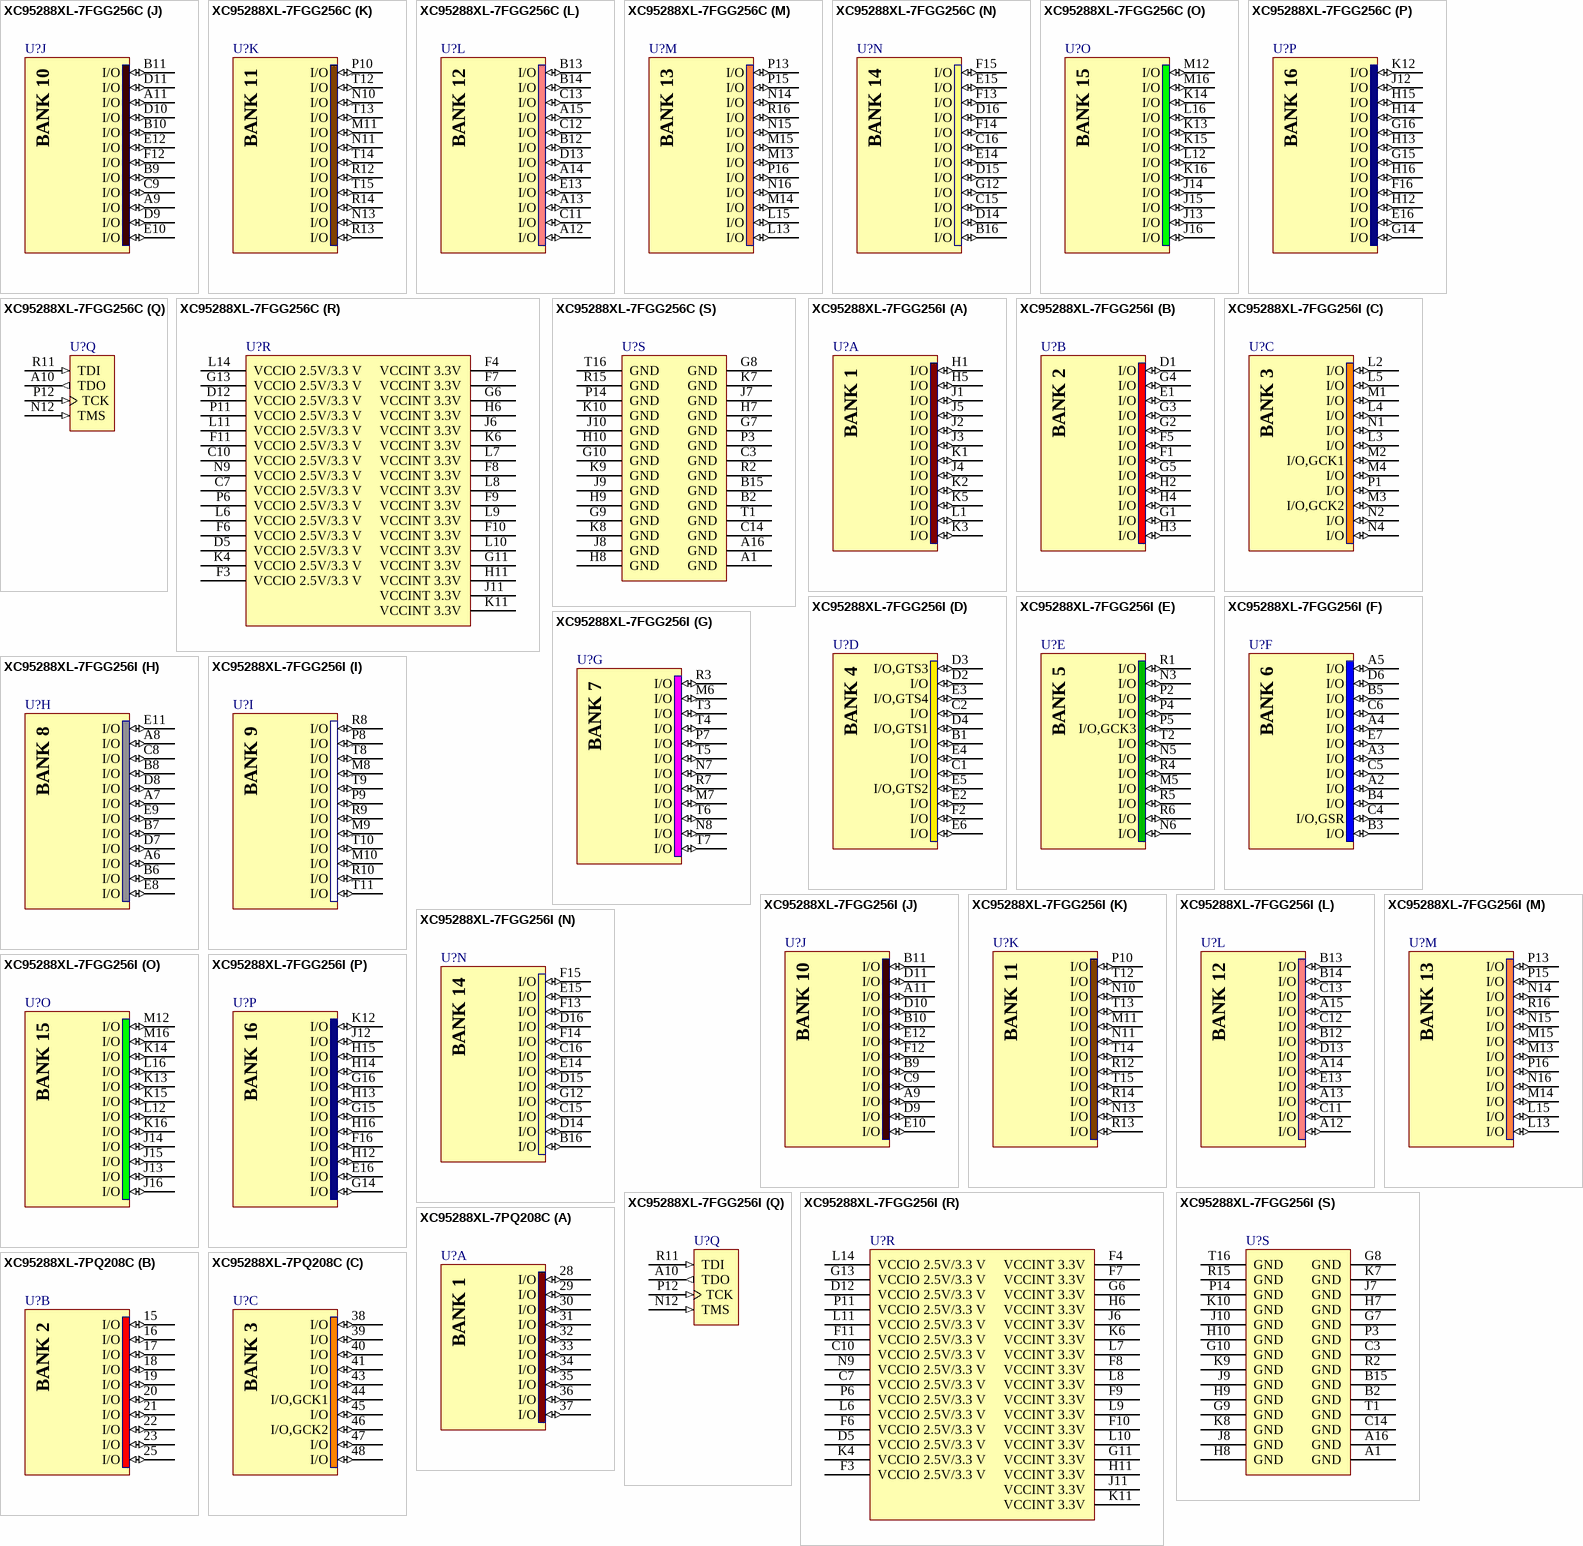
[diagram p42: symbols XC95288XL-7FGG256C to XC95288XL-7PQ208C]

## XC95288XL-7FGG256C
designator U?
FastFLASH XC900XL, 3.3V High-Performance 288 Macrocell CPLD, 192 User I/Os, 256-Ball FBGA, Speed Grade 7, Commercial Grade, Pb-Free; DatasheetVersion: ver2.1, Apr-2007; PackageVersion: ver1.2.1, Apr-2005; PackageReference: FGG256; PackageDescription: 256-Ball Fine Pitch Ball Grid Array (FGG256) - Pb-Free; Code_JEDEC: MO-151-AAF-1; Code_IPC: BGA100P16X16-256; ComponentLink1Description: Manufacturer URL; ComponentLink1URL: http://www.xilinx.com/; ComponentLink2Description: XC95288XL Datasheet; ComponentLink2URL: http://www.xilinx.com/support/documentation/data_sheets/ds055.pdf; ComponentLink3Description: FGG256 Package Drawing; ComponentLink3URL: http://www.xilinx.com/support/documentation/package_specs/fg256.pdf; ComponentLink4Description: XC9500XL Documents; ComponentLink4URL: http://www.xilinx.com/support/documentation/xc9500xl.htm
footprint FGG256 (BGA, 256-Leads, Body 17x17mm, Pitch 1mm)
part A pins: H1 I/O (io), H5 I/O (io), J1 I/O (io), J2 I/O (io), J3 I/O (io), J4 I/O (io), J5 I/O (io), K1 I/O (io), K2 I/O (io), K3 I/O (io), K5 I/O (io), L1 I/O (io)
part B pins: D1 I/O (io), E1 I/O (io), F1 I/O (io), F5 I/O (io), G1 I/O (io), G2 I/O (io), G3 I/O (io), G4 I/O (io), G5 I/O (io), H2 I/O (io), H3 I/O (io), H4 I/O (io)
part C pins: L2 I/O (io), L3 I/O (io), L4 I/O (io), L5 I/O (io), M1 I/O (io), M2 I/O,GCK1 (io), M3 I/O,GCK2 (io), M4 I/O (io), N1 I/O (io), N2 I/O (io), N4 I/O (io), P1 I/O (io)
part D pins: B1 I/O (io), C1 I/O (io), C2 I/O (io), D2 I/O (io), D3 I/O,GTS3 (io), D4 I/O,GTS1 (io), E2 I/O (io), E3 I/O,GTS4 (io), E4 I/O (io), E5 I/O,GTS2 (io), E6 I/O (io), F2 I/O (io)
part E pins: M5 I/O (io), N3 I/O (io), N5 I/O (io), N6 I/O (io), P2 I/O (io), P4 I/O (io), P5 I/O,GCK3 (io), R1 I/O (io), R4 I/O (io), R5 I/O (io), R6 I/O (io), T2 I/O (io)
part F pins: A2 I/O (io), A3 I/O (io), A4 I/O (io), A5 I/O (io), B3 I/O (io), B4 I/O (io), B5 I/O (io), C4 I/O,GSR (io), C5 I/O (io), C6 I/O (io), D6 I/O (io), E7 I/O (io)
part G pins: M6 I/O (io), M7 I/O (io), N7 I/O (io), N8 I/O (io), P7 I/O (io), R3 I/O (io), R7 I/O (io), T3 I/O (io), T4 I/O (io), T5 I/O (io), T6 I/O (io), T7 I/O (io)
part H pins: A6 I/O (io), A7 I/O (io), A8 I/O (io), B6 I/O (io), B7 I/O (io), B8 I/O (io), C8 I/O (io), D7 I/O (io), D8 I/O (io), E8 I/O (io), E9 I/O (io), E11 I/O (io)
part I pins: M8 I/O (io), M9 I/O (io), M10 I/O (io), P8 I/O (io), P9 I/O (io), R8 I/O (io), R9 I/O (io), R10 I/O (io), T8 I/O (io), T9 I/O (io), T10 I/O (io), T11 I/O (io)
part J pins: A9 I/O (io), A11 I/O (io), B9 I/O (io), B10 I/O (io), B11 I/O (io), C9 I/O (io), D9 I/O (io), D10 I/O (io), D11 I/O (io), E10 I/O (io), E12 I/O (io), F12 I/O (io)
part K pins: M11 I/O (io), N10 I/O (io), N11 I/O (io), N13 I/O (io), P10 I/O (io), R12 I/O (io), R13 I/O (io), R14 I/O (io), T12 I/O (io), T13 I/O (io), T14 I/O (io), T15 I/O (io)
part L pins: A12 I/O (io), A13 I/O (io), A14 I/O (io), A15 I/O (io), B12 I/O (io), B13 I/O (io), B14 I/O (io), C11 I/O (io), C12 I/O (io), C13 I/O (io), D13 I/O (io), E13 I/O (io)
part M pins: L13 I/O (io), L15 I/O (io), M13 I/O (io), M14 I/O (io), M15 I/O (io), N14 I/O (io), N15 I/O (io), N16 I/O (io), P13 I/O (io), P15 I/O (io), P16 I/O (io), R16 I/O (io)
part N pins: B16 I/O (io), C15 I/O (io), C16 I/O (io), D14 I/O (io), D15 I/O (io), D16 I/O (io), E14 I/O (io), E15 I/O (io), F13 I/O (io), F14 I/O (io), F15 I/O (io), G12 I/O (io)
part O pins: J13 I/O (io), J14 I/O (io), J15 I/O (io), J16 I/O (io), K13 I/O (io), K14 I/O (io), K15 I/O (io), K16 I/O (io), L12 I/O (io), L16 I/O (io), M12 I/O (io), M16 I/O (io)
part P pins: E16 I/O (io), F16 I/O (io), G14 I/O (io), G15 I/O (io), G16 I/O (io), H12 I/O (io), H13 I/O (io), H14 I/O (io), H15 I/O (io), H16 I/O (io), J12 I/O (io), K12 I/O (io)
part Q pins: A10 TDO (out), N12 TMS (in), P12 TCK (in), R11 TDI (in)
part R pins: C7 VCCIO 2.5V/3.3 V (power), C10 VCCIO 2.5V/3.3 V (power), D5 VCCIO 2.5V/3.3 V (power), D12 VCCIO 2.5V/3.3 V (power), F3 VCCIO 2.5V/3.3 V (power), F4 VCCINT 3.3V (power), F6 VCCIO 2.5V/3.3 V (power), F7 VCCINT 3.3V (power), F8 VCCINT 3.3V (power), F9 VCCINT 3.3V (power), F10 VCCINT 3.3V (power), F11 VCCIO 2.5V/3.3 V (power), G6 VCCINT 3.3V (power), G11 VCCINT 3.3V (power), G13 VCCIO 2.5V/3.3 V (power), H6 VCCINT 3.3V (power), H11 VCCINT 3.3V (power), J6 VCCINT 3.3V (power), J11 VCCINT 3.3V (power), K4 VCCIO 2.5V/3.3 V (power), K6 VCCINT 3.3V (power), K11 VCCINT 3.3V (power), L6 VCCIO 2.5V/3.3 V (power), L7 VCCINT 3.3V (power), L8 VCCINT 3.3V (power), L9 VCCINT 3.3V (power), L10 VCCINT 3.3V (power), L11 VCCIO 2.5V/3.3 V (power), L14 VCCIO 2.5V/3.3 V (power), N9 VCCIO 2.5V/3.3 V (power), P6 VCCIO 2.5V/3.3 V (power), P11 VCCIO 2.5V/3.3 V (power)
part S pins: A1 GND (power), A16 GND (power), B2 GND (power), B15 GND (power), C3 GND (power), C14 GND (power), G7 GND (power), G8 GND (power), G9 GND (power), G10 GND (power), H7 GND (power), H8 GND (power), H9 GND (power), H10 GND (power), J7 GND (power), J8 GND (power), J9 GND (power), J10 GND (power), K7 GND (power), K8 GND (power), K9 GND (power), K10 GND (power), P3 GND (power), P14 GND (power), R2 GND (power), R15 GND (power), T1 GND (power), T16 GND (power)
part A text: BANK 1
part B text: BANK 2
part C text: BANK 3
part D text: BANK 4
part E text: BANK 5
part F text: BANK 6
part G text: BANK 7
part H text: BANK 8
part I text: BANK 9
part J text: BANK 10
part K text: BANK 11
part L text: BANK 12
part M text: BANK 13
part N text: BANK 14
part O text: BANK 15
part P text: BANK 16

## XC95288XL-7FGG256I
designator U?
FastFLASH XC900XL, 3.3V High-Performance 288 Macrocell CPLD, 192 User I/Os, 256-Ball FBGA, Speed Grade 7, Industrial Grade, Pb-Free; DatasheetVersion: ver2.1, Apr-2007; PackageVersion: ver1.2.1, Apr-2005; PackageReference: FGG256; PackageDescription: 256-Ball Fine Pitch Ball Grid Array (FGG256) - Pb-Free; Code_JEDEC: MO-151-AAF-1; Code_IPC: BGA100P16X16-256; ComponentLink1Description: Manufacturer URL; ComponentLink1URL: http://www.xilinx.com/; ComponentLink2Description: XC95288XL Datasheet; ComponentLink2URL: http://www.xilinx.com/support/documentation/data_sheets/ds055.pdf; ComponentLink3Description: FGG256 Package Drawing; ComponentLink3URL: http://www.xilinx.com/support/documentation/package_specs/fg256.pdf; ComponentLink4Description: XC9500XL Documents; ComponentLink4URL: http://www.xilinx.com/support/documentation/xc9500xl.htm
footprint FGG256 (BGA, 256-Leads, Body 17x17mm, Pitch 1mm)
part A pins: H1 I/O (io), H5 I/O (io), J1 I/O (io), J2 I/O (io), J3 I/O (io), J4 I/O (io), J5 I/O (io), K1 I/O (io), K2 I/O (io), K3 I/O (io), K5 I/O (io), L1 I/O (io)
part B pins: D1 I/O (io), E1 I/O (io), F1 I/O (io), F5 I/O (io), G1 I/O (io), G2 I/O (io), G3 I/O (io), G4 I/O (io), G5 I/O (io), H2 I/O (io), H3 I/O (io), H4 I/O (io)
part C pins: L2 I/O (io), L3 I/O (io), L4 I/O (io), L5 I/O (io), M1 I/O (io), M2 I/O,GCK1 (io), M3 I/O,GCK2 (io), M4 I/O (io), N1 I/O (io), N2 I/O (io), N4 I/O (io), P1 I/O (io)
part D pins: B1 I/O (io), C1 I/O (io), C2 I/O (io), D2 I/O (io), D3 I/O,GTS3 (io), D4 I/O,GTS1 (io), E2 I/O (io), E3 I/O,GTS4 (io), E4 I/O (io), E5 I/O,GTS2 (io), E6 I/O (io), F2 I/O (io)
part E pins: M5 I/O (io), N3 I/O (io), N5 I/O (io), N6 I/O (io), P2 I/O (io), P4 I/O (io), P5 I/O,GCK3 (io), R1 I/O (io), R4 I/O (io), R5 I/O (io), R6 I/O (io), T2 I/O (io)
part F pins: A2 I/O (io), A3 I/O (io), A4 I/O (io), A5 I/O (io), B3 I/O (io), B4 I/O (io), B5 I/O (io), C4 I/O,GSR (io), C5 I/O (io), C6 I/O (io), D6 I/O (io), E7 I/O (io)
part G pins: M6 I/O (io), M7 I/O (io), N7 I/O (io), N8 I/O (io), P7 I/O (io), R3 I/O (io), R7 I/O (io), T3 I/O (io), T4 I/O (io), T5 I/O (io), T6 I/O (io), T7 I/O (io)
part H pins: A6 I/O (io), A7 I/O (io), A8 I/O (io), B6 I/O (io), B7 I/O (io), B8 I/O (io), C8 I/O (io), D7 I/O (io), D8 I/O (io), E8 I/O (io), E9 I/O (io), E11 I/O (io)
part I pins: M8 I/O (io), M9 I/O (io), M10 I/O (io), P8 I/O (io), P9 I/O (io), R8 I/O (io), R9 I/O (io), R10 I/O (io), T8 I/O (io), T9 I/O (io), T10 I/O (io), T11 I/O (io)
part J pins: A9 I/O (io), A11 I/O (io), B9 I/O (io), B10 I/O (io), B11 I/O (io), C9 I/O (io), D9 I/O (io), D10 I/O (io), D11 I/O (io), E10 I/O (io), E12 I/O (io), F12 I/O (io)
part K pins: M11 I/O (io), N10 I/O (io), N11 I/O (io), N13 I/O (io), P10 I/O (io), R12 I/O (io), R13 I/O (io), R14 I/O (io), T12 I/O (io), T13 I/O (io), T14 I/O (io), T15 I/O (io)
part L pins: A12 I/O (io), A13 I/O (io), A14 I/O (io), A15 I/O (io), B12 I/O (io), B13 I/O (io), B14 I/O (io), C11 I/O (io), C12 I/O (io), C13 I/O (io), D13 I/O (io), E13 I/O (io)
part M pins: L13 I/O (io), L15 I/O (io), M13 I/O (io), M14 I/O (io), M15 I/O (io), N14 I/O (io), N15 I/O (io), N16 I/O (io), P13 I/O (io), P15 I/O (io), P16 I/O (io), R16 I/O (io)
part N pins: B16 I/O (io), C15 I/O (io), C16 I/O (io), D14 I/O (io), D15 I/O (io), D16 I/O (io), E14 I/O (io), E15 I/O (io), F13 I/O (io), F14 I/O (io), F15 I/O (io), G12 I/O (io)
part O pins: J13 I/O (io), J14 I/O (io), J15 I/O (io), J16 I/O (io), K13 I/O (io), K14 I/O (io), K15 I/O (io), K16 I/O (io), L12 I/O (io), L16 I/O (io), M12 I/O (io), M16 I/O (io)
part P pins: E16 I/O (io), F16 I/O (io), G14 I/O (io), G15 I/O (io), G16 I/O (io), H12 I/O (io), H13 I/O (io), H14 I/O (io), H15 I/O (io), H16 I/O (io), J12 I/O (io), K12 I/O (io)
part Q pins: A10 TDO (out), N12 TMS (in), P12 TCK (in), R11 TDI (in)
part R pins: C7 VCCIO 2.5V/3.3 V (power), C10 VCCIO 2.5V/3.3 V (power), D5 VCCIO 2.5V/3.3 V (power), D12 VCCIO 2.5V/3.3 V (power), F3 VCCIO 2.5V/3.3 V (power), F4 VCCINT 3.3V (power), F6 VCCIO 2.5V/3.3 V (power), F7 VCCINT 3.3V (power), F8 VCCINT 3.3V (power), F9 VCCINT 3.3V (power), F10 VCCINT 3.3V (power), F11 VCCIO 2.5V/3.3 V (power), G6 VCCINT 3.3V (power), G11 VCCINT 3.3V (power), G13 VCCIO 2.5V/3.3 V (power), H6 VCCINT 3.3V (power), H11 VCCINT 3.3V (power), J6 VCCINT 3.3V (power), J11 VCCINT 3.3V (power), K4 VCCIO 2.5V/3.3 V (power), K6 VCCINT 3.3V (power), K11 VCCINT 3.3V (power), L6 VCCIO 2.5V/3.3 V (power), L7 VCCINT 3.3V (power), L8 VCCINT 3.3V (power), L9 VCCINT 3.3V (power), L10 VCCINT 3.3V (power), L11 VCCIO 2.5V/3.3 V (power), L14 VCCIO 2.5V/3.3 V (power), N9 VCCIO 2.5V/3.3 V (power), P6 VCCIO 2.5V/3.3 V (power), P11 VCCIO 2.5V/3.3 V (power)
part S pins: A1 GND (power), A16 GND (power), B2 GND (power), B15 GND (power), C3 GND (power), C14 GND (power), G7 GND (power), G8 GND (power), G9 GND (power), G10 GND (power), H7 GND (power), H8 GND (power), H9 GND (power), H10 GND (power), J7 GND (power), J8 GND (power), J9 GND (power), J10 GND (power), K7 GND (power), K8 GND (power), K9 GND (power), K10 GND (power), P3 GND (power), P14 GND (power), R2 GND (power), R15 GND (power), T1 GND (power), T16 GND (power)
part A text: BANK 1
part B text: BANK 2
part C text: BANK 3
part D text: BANK 4
part E text: BANK 5
part F text: BANK 6
part G text: BANK 7
part H text: BANK 8
part I text: BANK 9
part J text: BANK 10
part K text: BANK 11
part L text: BANK 12
part M text: BANK 13
part N text: BANK 14
part O text: BANK 15
part P text: BANK 16

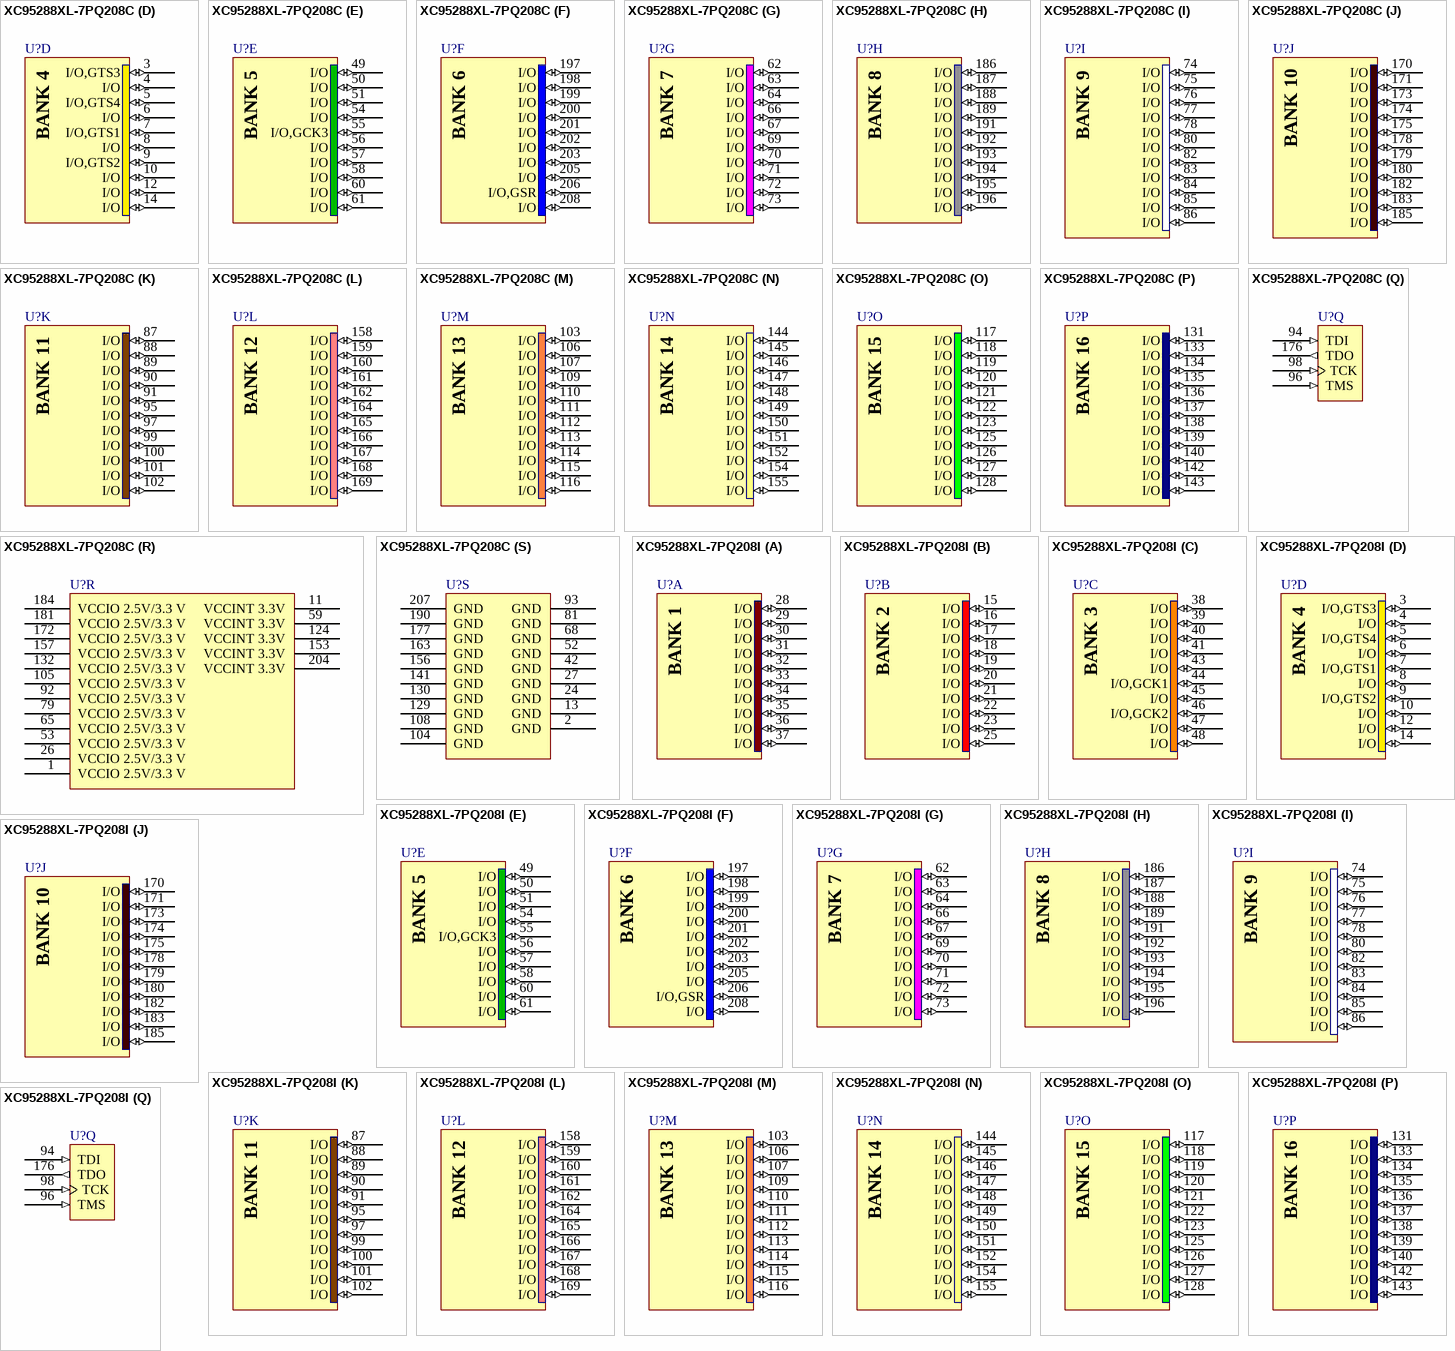
[diagram p43: symbols XC95288XL-7PQ208C to XC95288XL-7PQ208I]

## XC95288XL-7PQ208C
designator U?
FastFLASH XC900XL, 3.3V High-Performance 288 Macrocell CPLD, 168 User I/Os, 208-Pin PQFP, Speed Grade 7, Commercial Grade; DatasheetVersion: ver2.1, Apr-2007; PackageVersion: ver1.2, Jun-2004; PackageReference: PQ208; PackageDescription: 208-Pin Plastic Quad Flat Pack (PQ208); Code_JEDEC: MS-029-FA-1; ComponentLink1Description: Manufacturer URL; ComponentLink1URL: http://www.xilinx.com/; ComponentLink2Description: XC95288XL Datasheet; ComponentLink2URL: http://www.xilinx.com/support/documentation/data_sheets/ds055.pdf; ComponentLink3Description: PQ208 Package Drawing; ComponentLink3URL: http://www.xilinx.com/support/documentation/package_specs/pq208.pdf; ComponentLink4Description: XC9500XL Documents; ComponentLink4URL: http://www.xilinx.com/support/documentation/xc9500xl.htm
footprint PQ208_N (Shrink QFP, 208-Leads, Body 28x28mm, Pitch 0.5mm, IPC Medium Density)
footprint PQ208_L (Shrink QFP, 208-Leads, Body 28x28mm, Pitch 0.5mm, IPC High Density)
footprint PQ208_M (Shrink QFP, 208-Leads, Body 28x28mm, Pitch 0.5mm, IPC Low Density)
part A pins: 28 I/O (io), 29 I/O (io), 30 I/O (io), 31 I/O (io), 32 I/O (io), 33 I/O (io), 34 I/O (io), 35 I/O (io), 36 I/O (io), 37 I/O (io)
part B pins: 15 I/O (io), 16 I/O (io), 17 I/O (io), 18 I/O (io), 19 I/O (io), 20 I/O (io), 21 I/O (io), 22 I/O (io), 23 I/O (io), 25 I/O (io)
part C pins: 38 I/O (io), 39 I/O (io), 40 I/O (io), 41 I/O (io), 43 I/O (io), 44 I/O,GCK1 (io), 45 I/O (io), 46 I/O,GCK2 (io), 47 I/O (io), 48 I/O (io)
part D pins: 3 I/O,GTS3 (io), 4 I/O (io), 5 I/O,GTS4 (io), 6 I/O (io), 7 I/O,GTS1 (io), 8 I/O (io), 9 I/O,GTS2 (io), 10 I/O (io), 12 I/O (io), 14 I/O (io)
part E pins: 49 I/O (io), 50 I/O (io), 51 I/O (io), 54 I/O (io), 55 I/O,GCK3 (io), 56 I/O (io), 57 I/O (io), 58 I/O (io), 60 I/O (io), 61 I/O (io)
part F pins: 197 I/O (io), 198 I/O (io), 199 I/O (io), 200 I/O (io), 201 I/O (io), 202 I/O (io), 203 I/O (io), 205 I/O (io), 206 I/O,GSR (io), 208 I/O (io)
part G pins: 62 I/O (io), 63 I/O (io), 64 I/O (io), 66 I/O (io), 67 I/O (io), 69 I/O (io), 70 I/O (io), 71 I/O (io), 72 I/O (io), 73 I/O (io)
part H pins: 186 I/O (io), 187 I/O (io), 188 I/O (io), 189 I/O (io), 191 I/O (io), 192 I/O (io), 193 I/O (io), 194 I/O (io), 195 I/O (io), 196 I/O (io)
part I pins: 74 I/O (io), 75 I/O (io), 76 I/O (io), 77 I/O (io), 78 I/O (io), 80 I/O (io), 82 I/O (io), 83 I/O (io), 84 I/O (io), 85 I/O (io), 86 I/O (io)
part J pins: 170 I/O (io), 171 I/O (io), 173 I/O (io), 174 I/O (io), 175 I/O (io), 178 I/O (io), 179 I/O (io), 180 I/O (io), 182 I/O (io), 183 I/O (io), 185 I/O (io)
part K pins: 87 I/O (io), 88 I/O (io), 89 I/O (io), 90 I/O (io), 91 I/O (io), 95 I/O (io), 97 I/O (io), 99 I/O (io), 100 I/O (io), 101 I/O (io), 102 I/O (io)
part L pins: 158 I/O (io), 159 I/O (io), 160 I/O (io), 161 I/O (io), 162 I/O (io), 164 I/O (io), 165 I/O (io), 166 I/O (io), 167 I/O (io), 168 I/O (io), 169 I/O (io)
part M pins: 103 I/O (io), 106 I/O (io), 107 I/O (io), 109 I/O (io), 110 I/O (io), 111 I/O (io), 112 I/O (io), 113 I/O (io), 114 I/O (io), 115 I/O (io), 116 I/O (io)
part N pins: 144 I/O (io), 145 I/O (io), 146 I/O (io), 147 I/O (io), 148 I/O (io), 149 I/O (io), 150 I/O (io), 151 I/O (io), 152 I/O (io), 154 I/O (io), 155 I/O (io)
part O pins: 117 I/O (io), 118 I/O (io), 119 I/O (io), 120 I/O (io), 121 I/O (io), 122 I/O (io), 123 I/O (io), 125 I/O (io), 126 I/O (io), 127 I/O (io), 128 I/O (io)
part P pins: 131 I/O (io), 133 I/O (io), 134 I/O (io), 135 I/O (io), 136 I/O (io), 137 I/O (io), 138 I/O (io), 139 I/O (io), 140 I/O (io), 142 I/O (io), 143 I/O (io)
part Q pins: 94 TDI (in), 96 TMS (in), 98 TCK (in), 176 TDO (out)
part R pins: 1 VCCIO 2.5V/3.3 V (power), 11 VCCINT 3.3V (power), 26 VCCIO 2.5V/3.3 V (power), 53 VCCIO 2.5V/3.3 V (power), 59 VCCINT 3.3V (power), 65 VCCIO 2.5V/3.3 V (power), 79 VCCIO 2.5V/3.3 V (power), 92 VCCIO 2.5V/3.3 V (power), 105 VCCIO 2.5V/3.3 V (power), 124 VCCINT 3.3V (power), 132 VCCIO 2.5V/3.3 V (power), 153 VCCINT 3.3V (power), 157 VCCIO 2.5V/3.3 V (power), 172 VCCIO 2.5V/3.3 V (power), 181 VCCIO 2.5V/3.3 V (power), 184 VCCIO 2.5V/3.3 V (power), 204 VCCINT 3.3V (power)
part S pins: 2 GND (power), 13 GND (power), 24 GND (power), 27 GND (power), 42 GND (power), 52 GND (power), 68 GND (power), 81 GND (power), 93 GND (power), 104 GND (power), 108 GND (power), 129 GND (power), 130 GND (power), 141 GND (power), 156 GND (power), 163 GND (power), 177 GND (power), 190 GND (power), 207 GND (power)
part A text: BANK 1
part B text: BANK 2
part C text: BANK 3
part D text: BANK 4
part E text: BANK 5
part F text: BANK 6
part G text: BANK 7
part H text: BANK 8
part I text: BANK 9
part J text: BANK 10
part K text: BANK 11
part L text: BANK 12
part M text: BANK 13
part N text: BANK 14
part O text: BANK 15
part P text: BANK 16

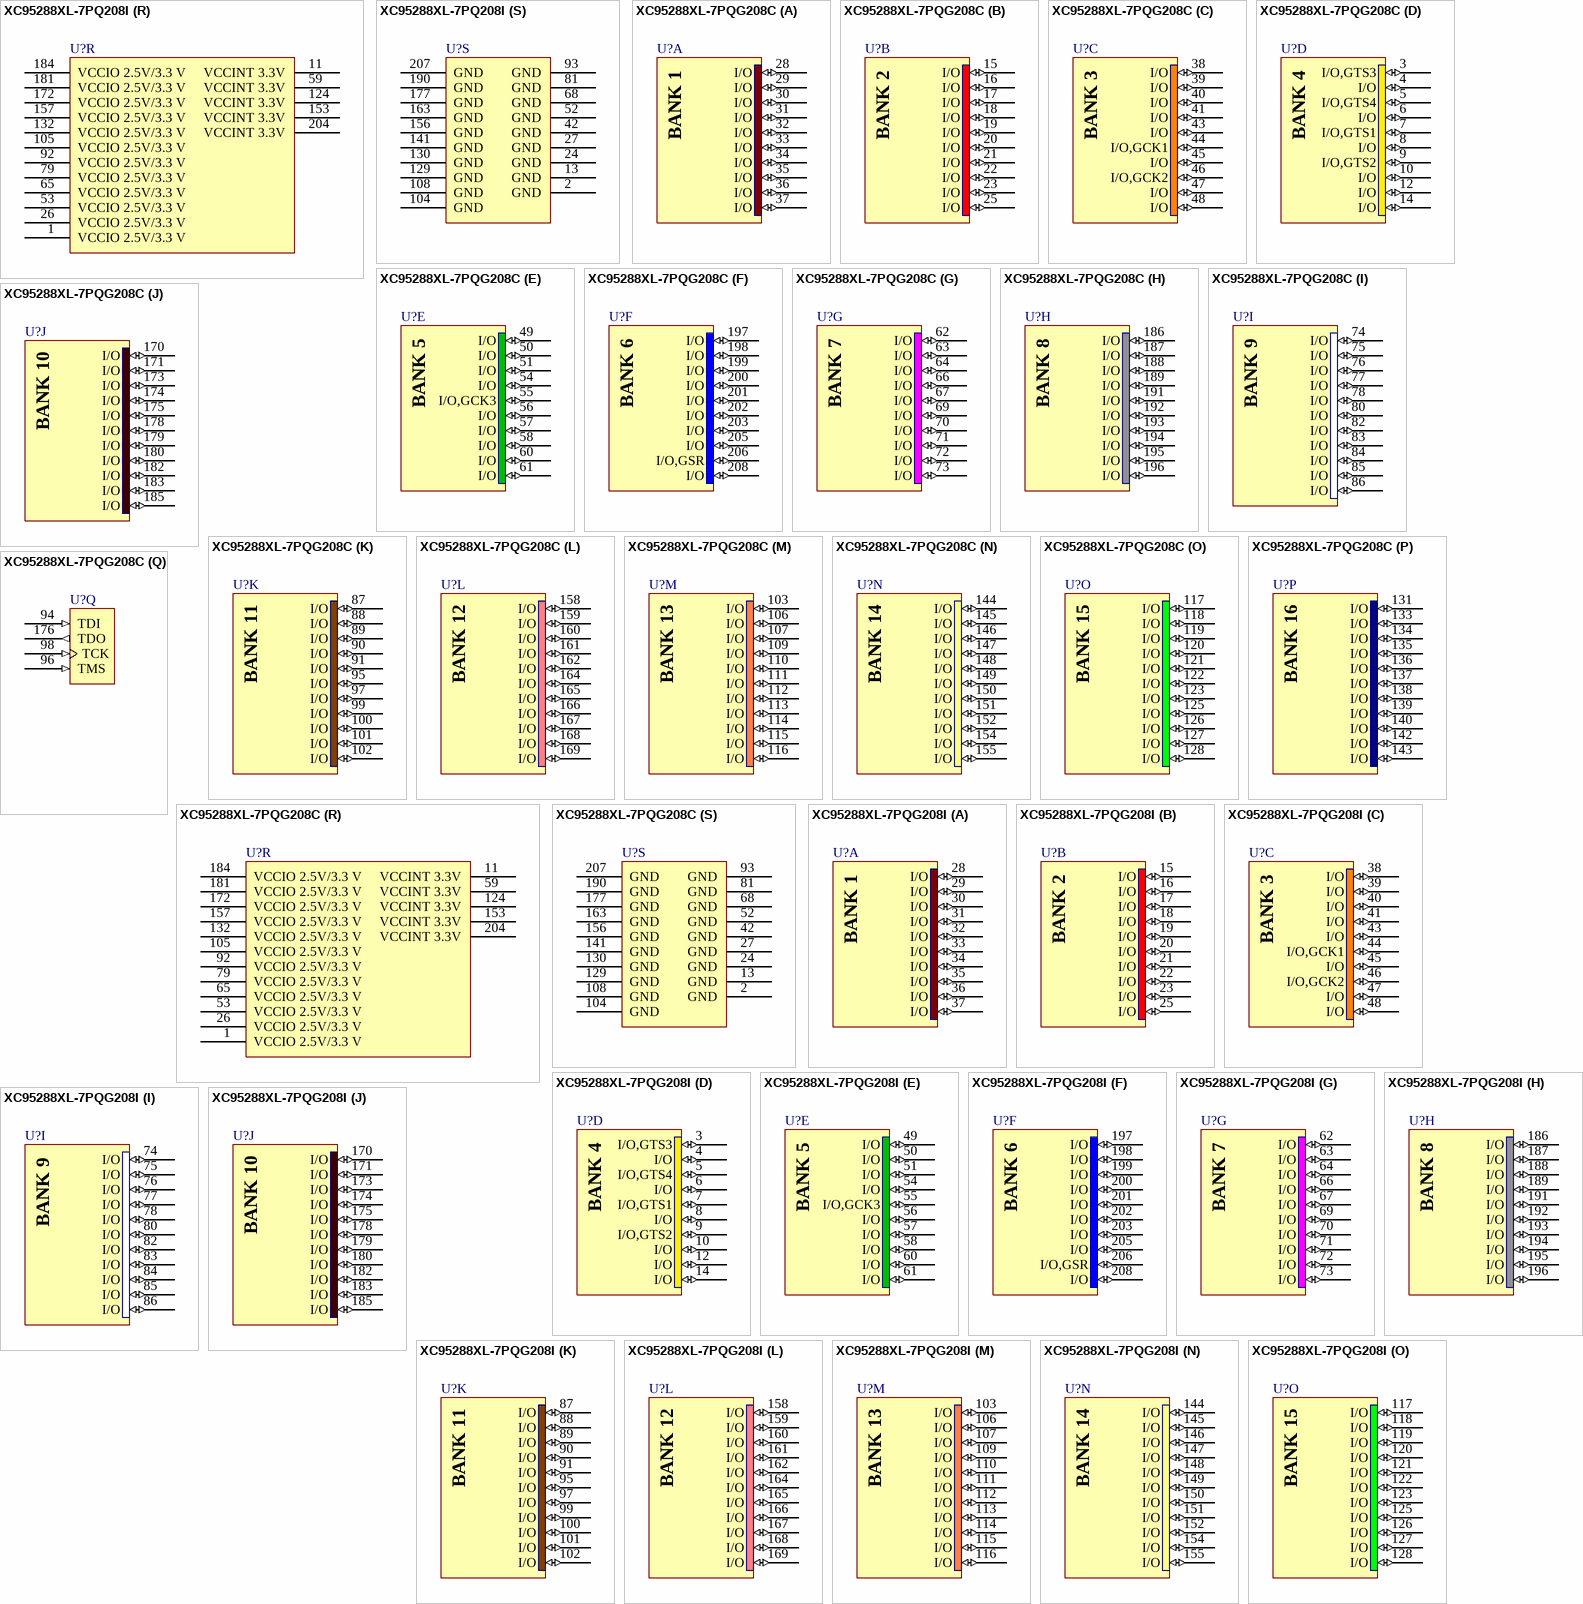
[diagram p44: symbols XC95288XL-7PQ208I to XC95288XL-7PQG208I]

## XC95288XL-7PQ208I
designator U?
FastFLASH XC900XL, 3.3V High-Performance 288 Macrocell CPLD, 168 User I/Os, 208-Pin PQFP, Speed Grade 7, Industrial Grade; DatasheetVersion: ver2.1, Apr-2007; PackageVersion: ver1.2, Jun-2004; PackageReference: PQ208; PackageDescription: 208-Pin Plastic Quad Flat Pack (PQ208); Code_JEDEC: MS-029-FA-1; ComponentLink1Description: Manufacturer URL; ComponentLink1URL: http://www.xilinx.com/; ComponentLink2Description: XC95288XL Datasheet; ComponentLink2URL: http://www.xilinx.com/support/documentation/data_sheets/ds055.pdf; ComponentLink3Description: PQ208 Package Drawing; ComponentLink3URL: http://www.xilinx.com/support/documentation/package_specs/pq208.pdf; ComponentLink4Description: XC9500XL Documents; ComponentLink4URL: http://www.xilinx.com/support/documentation/xc9500xl.htm
footprint PQ208_N (Shrink QFP, 208-Leads, Body 28x28mm, Pitch 0.5mm, IPC Medium Density)
footprint PQ208_L (Shrink QFP, 208-Leads, Body 28x28mm, Pitch 0.5mm, IPC High Density)
footprint PQ208_M (Shrink QFP, 208-Leads, Body 28x28mm, Pitch 0.5mm, IPC Low Density)
part A pins: 28 I/O (io), 29 I/O (io), 30 I/O (io), 31 I/O (io), 32 I/O (io), 33 I/O (io), 34 I/O (io), 35 I/O (io), 36 I/O (io), 37 I/O (io)
part B pins: 15 I/O (io), 16 I/O (io), 17 I/O (io), 18 I/O (io), 19 I/O (io), 20 I/O (io), 21 I/O (io), 22 I/O (io), 23 I/O (io), 25 I/O (io)
part C pins: 38 I/O (io), 39 I/O (io), 40 I/O (io), 41 I/O (io), 43 I/O (io), 44 I/O,GCK1 (io), 45 I/O (io), 46 I/O,GCK2 (io), 47 I/O (io), 48 I/O (io)
part D pins: 3 I/O,GTS3 (io), 4 I/O (io), 5 I/O,GTS4 (io), 6 I/O (io), 7 I/O,GTS1 (io), 8 I/O (io), 9 I/O,GTS2 (io), 10 I/O (io), 12 I/O (io), 14 I/O (io)
part E pins: 49 I/O (io), 50 I/O (io), 51 I/O (io), 54 I/O (io), 55 I/O,GCK3 (io), 56 I/O (io), 57 I/O (io), 58 I/O (io), 60 I/O (io), 61 I/O (io)
part F pins: 197 I/O (io), 198 I/O (io), 199 I/O (io), 200 I/O (io), 201 I/O (io), 202 I/O (io), 203 I/O (io), 205 I/O (io), 206 I/O,GSR (io), 208 I/O (io)
part G pins: 62 I/O (io), 63 I/O (io), 64 I/O (io), 66 I/O (io), 67 I/O (io), 69 I/O (io), 70 I/O (io), 71 I/O (io), 72 I/O (io), 73 I/O (io)
part H pins: 186 I/O (io), 187 I/O (io), 188 I/O (io), 189 I/O (io), 191 I/O (io), 192 I/O (io), 193 I/O (io), 194 I/O (io), 195 I/O (io), 196 I/O (io)
part I pins: 74 I/O (io), 75 I/O (io), 76 I/O (io), 77 I/O (io), 78 I/O (io), 80 I/O (io), 82 I/O (io), 83 I/O (io), 84 I/O (io), 85 I/O (io), 86 I/O (io)
part J pins: 170 I/O (io), 171 I/O (io), 173 I/O (io), 174 I/O (io), 175 I/O (io), 178 I/O (io), 179 I/O (io), 180 I/O (io), 182 I/O (io), 183 I/O (io), 185 I/O (io)
part K pins: 87 I/O (io), 88 I/O (io), 89 I/O (io), 90 I/O (io), 91 I/O (io), 95 I/O (io), 97 I/O (io), 99 I/O (io), 100 I/O (io), 101 I/O (io), 102 I/O (io)
part L pins: 158 I/O (io), 159 I/O (io), 160 I/O (io), 161 I/O (io), 162 I/O (io), 164 I/O (io), 165 I/O (io), 166 I/O (io), 167 I/O (io), 168 I/O (io), 169 I/O (io)
part M pins: 103 I/O (io), 106 I/O (io), 107 I/O (io), 109 I/O (io), 110 I/O (io), 111 I/O (io), 112 I/O (io), 113 I/O (io), 114 I/O (io), 115 I/O (io), 116 I/O (io)
part N pins: 144 I/O (io), 145 I/O (io), 146 I/O (io), 147 I/O (io), 148 I/O (io), 149 I/O (io), 150 I/O (io), 151 I/O (io), 152 I/O (io), 154 I/O (io), 155 I/O (io)
part O pins: 117 I/O (io), 118 I/O (io), 119 I/O (io), 120 I/O (io), 121 I/O (io), 122 I/O (io), 123 I/O (io), 125 I/O (io), 126 I/O (io), 127 I/O (io), 128 I/O (io)
part P pins: 131 I/O (io), 133 I/O (io), 134 I/O (io), 135 I/O (io), 136 I/O (io), 137 I/O (io), 138 I/O (io), 139 I/O (io), 140 I/O (io), 142 I/O (io), 143 I/O (io)
part Q pins: 94 TDI (in), 96 TMS (in), 98 TCK (in), 176 TDO (out)
part R pins: 1 VCCIO 2.5V/3.3 V (power), 11 VCCINT 3.3V (power), 26 VCCIO 2.5V/3.3 V (power), 53 VCCIO 2.5V/3.3 V (power), 59 VCCINT 3.3V (power), 65 VCCIO 2.5V/3.3 V (power), 79 VCCIO 2.5V/3.3 V (power), 92 VCCIO 2.5V/3.3 V (power), 105 VCCIO 2.5V/3.3 V (power), 124 VCCINT 3.3V (power), 132 VCCIO 2.5V/3.3 V (power), 153 VCCINT 3.3V (power), 157 VCCIO 2.5V/3.3 V (power), 172 VCCIO 2.5V/3.3 V (power), 181 VCCIO 2.5V/3.3 V (power), 184 VCCIO 2.5V/3.3 V (power), 204 VCCINT 3.3V (power)
part S pins: 2 GND (power), 13 GND (power), 24 GND (power), 27 GND (power), 42 GND (power), 52 GND (power), 68 GND (power), 81 GND (power), 93 GND (power), 104 GND (power), 108 GND (power), 129 GND (power), 130 GND (power), 141 GND (power), 156 GND (power), 163 GND (power), 177 GND (power), 190 GND (power), 207 GND (power)
part A text: BANK 1
part B text: BANK 2
part C text: BANK 3
part D text: BANK 4
part E text: BANK 5
part F text: BANK 6
part G text: BANK 7
part H text: BANK 8
part I text: BANK 9
part J text: BANK 10
part K text: BANK 11
part L text: BANK 12
part M text: BANK 13
part N text: BANK 14
part O text: BANK 15
part P text: BANK 16